# Altium schematic symbol library SparkFun-IC-Microcontroller.SCHLIB: 56 symbols (part 1 of 2)
Pins are listed as number, name and electrical type; pins without a type are passive.

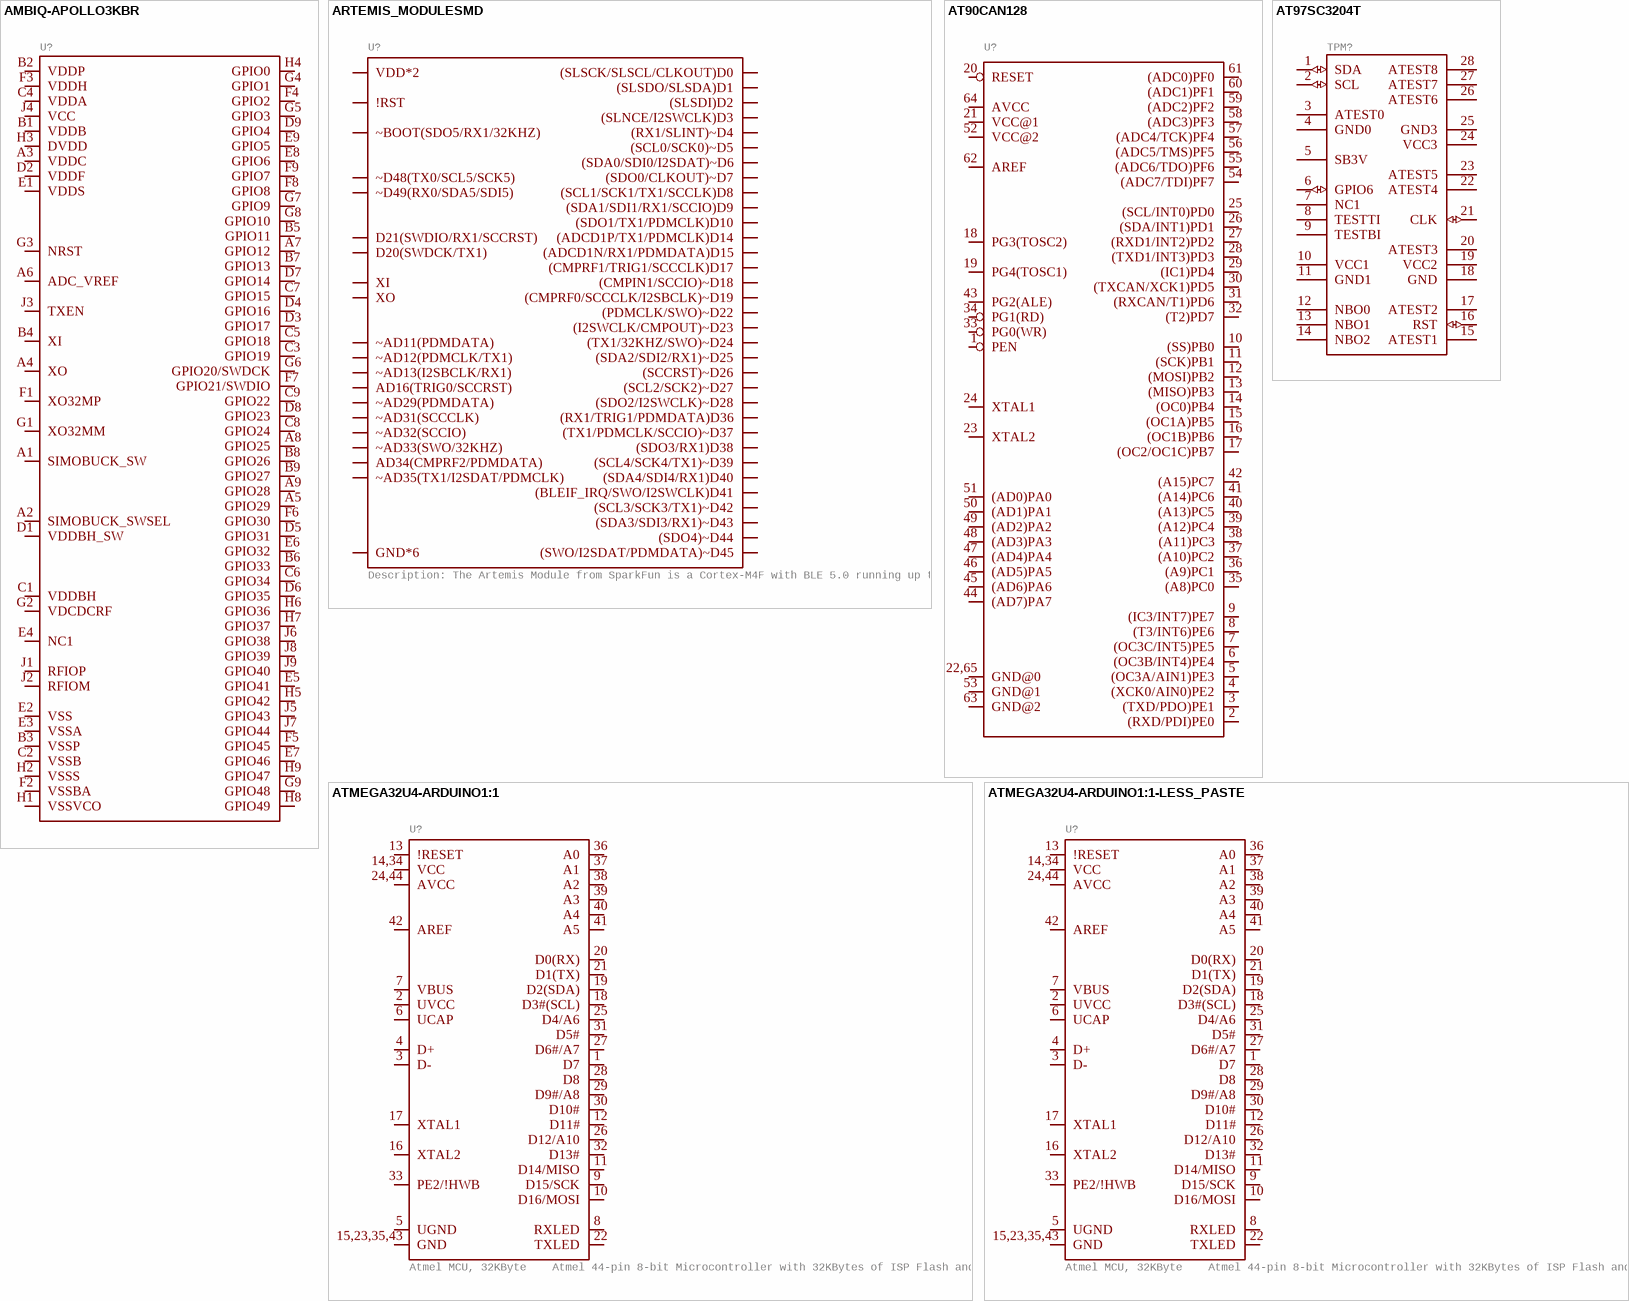
[diagram p0: symbols AMBIQ-APOLLO3KBR to ATMEGA32U4-ARDUINO1:1-LESS_PASTE]

## AMBIQ-APOLLO3KBR
designator U?
GateName_1: G$1; SymbolName_1: ABMIQ-APOLLO_3; DeviceName: KBR; DeviceSetName: AMBIQ-APOLLO3; PROD_ID: IC-14228; LibraryName: SparkFun-IC-Microcontroller; Package: BGA-81-5X5MM
footprint BGA-81-5X5MM
pins: A1 SIMOBUCK_SW (io), A2 SIMOBUCK_SWSEL (io), A3 VDDC (io), A4 XO (io), A5 GPIO29 (io), A6 ADC_VREF (io), A7 GPIO12 (io), A8 GPIO25 (io), A9 GPIO28 (io), B1 VDDB (io), B2 VDDP (io), B3 VSSP (io), B4 XI (io), B5 GPIO11 (io), B6 GPIO33 (io), B7 GPIO13 (io), B8 GPIO26 (io), B9 GPIO27 (io), C1 VDDBH (io), C2 VSSB (io), C3 GPIO19 (io), C4 VDDA (io), C5 GPIO18 (io), C6 GPIO34 (io), C7 GPIO15 (io), C8 GPIO24 (io), C9 GPIO22 (io), D1 VDDBH_SW (io), D2 VDDF (io), D3 GPIO17 (io), D4 GPIO16 (io), D5 GPIO31 (io), D6 GPIO35 (io), D7 GPIO14 (io), D8 GPIO23 (io), D9 GPIO4 (io), E1 VDDS (io), E2 VSS (io), E3 VSSA (io), E4 NC1 (io), E5 GPIO41 (io), E6 GPIO32 (io), E7 GPIO46 (io), E8 GPIO6 (io), E9 GPIO5 (io), F1 XO32MP (io), F2 VSSBA (io), F3 VDDH (io), F4 GPIO2 (io), F5 GPIO45 (io), F6 GPIO30 (io), F7 GPIO21/SWDIO (io), F8 GPIO8 (io), F9 GPIO7 (io), G1 XO32MM (io), G2 VDCDCRF (io), G3 NRST (io), G4 GPIO1 (io), G5 GPIO3 (io), G6 GPIO20/SWDCK (io), G7 GPIO9 (io), G8 GPIO10 (io), G9 GPIO48 (io), H1 VSSVCO (io), H2 VSSS (io), H3 DVDD (io), H4 GPIO0 (io), H5 GPIO42 (io), H6 GPIO36 (io), H7 GPIO37 (io), H8 GPIO49 (io), H9 GPIO47 (io), J1 RFIOP (io), J2 RFIOM (io), J3 TXEN (io), J4 VCC (io), J5 GPIO43 (io), J6 GPIO38 (io), J7 GPIO44 (io), J8 GPIO39 (io), J9 GPIO40 (io)

## ARTEMIS_MODULESMD
designator U?, comment Description: The Artemis Module from SparkFun is a Cortex-M4F with BLE 5.0 running up to 96MHz and with as low power as 6uA per MHz (less than 5mW). This is the world's first module to bridge the market between hobbyists and consumer products. We've packaged all the power of a modern microcontroller into a module that is both extremely easy to use but is mass-market ready. The flexibility of the Artemis module starts with our [Arduino core](https://github.com/sparkfun/Arduino_Apollo3). You can program and use the Artemis module just like you would an Uno or any other Arduino. Time to first blink is just 5 minutes away! We built the core from the ground up, making it fast and as light weight as possible.
GateName_1: U1; SymbolName_1: ARTEMIS_MODULE; DeviceName: SMD; PROD_ID: SUB-14402; LibraryName: SparkFun-IC-Microcontroller; DeviceSetName: ARTEMIS_MODULE; Package: ARTEMIS_FP
footprint ARTEMIS_FP
pins: AD16 AD16(TRIG0/SCCRST) (io), AD34 AD34(CMPRF2/PDMDATA) (io), BOOT ~BOOT(SDO5/RX1/32KHZ) (io), D0 (SLSCK/SLSCL/CLKOUT)D0 (io), D1 (SLSDO/SLSDA)D1 (io), D2 (SLSDI)D2 (io), D3 (SLNCE/I2SWCLK)D3 (io), D7 (SDO0/CLKOUT)~D7 (io), D8 (SCL1/SCK1/TX1/SCCLK)D8 (io), D9 (SDA1/SDI1/RX1/SCCIO)D9 (io), D10 (SDO1/TX1/PDMCLK)D10 (io), D14 (ADCD1P/TX1/PDMCLK)D14 (io), D15 (ADCD1N/RX1/PDMDATA)D15 (io), D17 (CMPRF1/TRIG1/SCCCLK)D17 (io), D36 (RX1/TRIG1/PDMDATA)D36 (io), D38 (SDO3/RX1)D38 (io), D40 (SDA4/SDI4/RX1)D40 (io), D41 (BLEIF_IRQ/SWO/I2SWCLK)D41 (io), GND@1,22,38,39,47,59 GND*6 (io), RXI-0 ~D49(RX0/SDA5/SDI5) (io), SWDCK D20(SWDCK/TX1) (io), SWDIO D21(SWDIO/RX1/SCCRST) (io), TXO-0 ~D48(TX0/SCL5/SCK5) (io), VDD@36,37 VDD*2 (io), XI (io), XO (io), ~AD11 ~AD11(PDMDATA) (io), ~AD12 ~AD12(PDMCLK/TX1) (io), ~AD13 ~AD13(I2SBCLK/RX1) (io), ~AD29 ~AD29(PDMDATA) (io), ~AD31 ~AD31(SCCCLK) (io), ~AD32 ~AD32(SCCIO) (io), ~AD33/SWO ~AD33(SWO/32KHZ) (io), ~AD35 ~AD35(TX1/I2SDAT/PDMCLK) (io), ~D4 (RX1/SLINT)~D4 (io), ~D5 (SCL0/SCK0)~D5 (io), ~D6 (SDA0/SDI0/I2SDAT)~D6 (io), ~D18 (CMPIN1/SCCIO)~D18 (io), ~D19 (CMPRF0/SCCCLK/I2SBCLK)~D19 (io), ~D22 (PDMCLK/SWO)~D22 (io), ~D23 (I2SWCLK/CMPOUT)~D23 (io), ~D24 (TX1/32KHZ/SWO)~D24 (io), ~D25 (SDA2/SDI2/RX1)~D25 (io), ~D26 (SCCRST)~D26 (io), ~D27 (SCL2/SCK2)~D27 (io), ~D28 (SDO2/I2SWCLK)~D28 (io), ~D37 (TX1/PDMCLK/SCCIO)~D37 (io), ~D39 (SCL4/SCK4/TX1)~D39 (io), ~D42 (SCL3/SCK3/TX1)~D42 (io), ~D43 (SDA3/SDI3/RX1)~D43 (io), ~D44 (SDO4)~D44 (io), ~D45 (SWO/I2SDAT/PDMDATA)~D45 (io), ~RST !RST (io)

## AT90CAN128
designator U?
GateName_1: G$1; SymbolName_1: AT90CAN128; PROD_ID: IC-13822; LibraryName: SparkFun-IC-Microcontroller; DeviceSetName: AT90CAN128; Package: QFN-64
footprint QFN-64
pins: 1 PEN (io), 2 (RXD/PDI)PE0 (io), 3 (TXD/PDO)PE1 (io), 4 (XCK0/AIN0)PE2 (io), 5 (OC3A/AIN1)PE3 (io), 6 (OC3B/INT4)PE4 (io), 7 (OC3C/INT5)PE5 (io), 8 (T3/INT6)PE6 (io), 9 (IC3/INT7)PE7 (io), 10 (SS)PB0 (io), 11 (SCK)PB1 (io), 12 (MOSI)PB2 (io), 13 (MISO)PB3 (io), 14 (OC0)PB4 (io), 15 (OC1A)PB5 (io), 16 (OC1B)PB6 (io), 17 (OC2/OC1C)PB7 (io), 18 PG3(TOSC2) (io), 19 PG4(TOSC1) (io), 20 RESET (io), 21 VCC@1 (io), 22,65 GND@0 (io), 23 XTAL2 (io), 24 XTAL1 (io), 25 (SCL/INT0)PD0 (io), 26 (SDA/INT1)PD1 (io), 27 (RXD1/INT2)PD2 (io), 28 (TXD1/INT3)PD3 (io), 29 (IC1)PD4 (io), 30 (TXCAN/XCK1)PD5 (io), 31 (RXCAN/T1)PD6 (io), 32 (T2)PD7 (io), 33 PG0(WR) (io), 34 PG1(RD) (io), 35 (A8)PC0 (io), 36 (A9)PC1 (io), 37 (A10)PC2 (io), 38 (A11)PC3 (io), 39 (A12)PC4 (io), 40 (A13)PC5 (io), 41 (A14)PC6 (io), 42 (A15)PC7 (io), 43 PG2(ALE) (io), 44 (AD7)PA7 (io), 45 (AD6)PA6 (io), 46 (AD5)PA5 (io), 47 (AD4)PA4 (io), 48 (AD3)PA3 (io), 49 (AD2)PA2 (io), 50 (AD1)PA1 (io), 51 (AD0)PA0 (io), 52 VCC@2 (io), 53 GND@1 (io), 54 (ADC7/TDI)PF7 (io), 55 (ADC6/TDO)PF6 (io), 56 (ADC5/TMS)PF5 (io), 57 (ADC4/TCK)PF4 (io), 58 (ADC3)PF3 (io), 59 (ADC2)PF2 (io), 60 (ADC1)PF1 (io), 61 (ADC0)PF0 (io), 62 AREF (io), 63 GND@2 (io), 64 AVCC (io)

## AT97SC3204T
designator TPM?, comment Atmel Trusted Platform Module 1.2    Datasheet SparkFun Products  CryptoCape (DEV-12773)  SparkFun CryptoShield (DEV-13183)  (value not drawn)
GateName_1: G$1; SymbolName_1: AT97SC3204T; PROD_ID: IC-11984; LibraryName: SparkFun-IC-Microcontroller; DeviceSetName: AT97SC3204T; Package: TSSOP28
footprint TSSOP28
pins: 1 SDA (io), 2 SCL (io), 3 ATEST0 (power), 4 GND0 (power), 5 SB3V (power), 6 GPIO6 (io), 7 NC1, 8 TESTTI (power), 9 TESTBI (power), 10 VCC1 (power), 11 GND1 (power), 12 NBO0, 13 NBO1, 14 NBO2, 15 ATEST1 (power), 16 RST (io), 17 ATEST2 (power), 18 GND (power), 19 VCC2 (power), 20 ATEST3 (power), 21 CLK (io), 22 ATEST4 (power), 23 ATEST5 (power), 24 VCC3 (power), 25 GND3 (power), 26 ATEST6 (power), 27 ATEST7 (power), 28 ATEST8 (power)

## ATMEGA32U4-ARDUINO1:1
designator U?, comment Atmel MCU, 32KByte    Atmel 44-pin 8-bit Microcontroller with 32KBytes of ISP Flash and USB Controller   Datasheet SparkFun Products  LilyPad Arduino USB - ATmega32U4 Board (DEV-12049)  Pro Micro - 5V/16MHz (DEV-12640)  Pro Micro - 3.3V/8MHz (DEV-12587)  Fio v3 - ATmega32U4 (DEV-11520)  Qduino Mini (DEV-13614)  Makey Makey - Standard Kit (WIG-11511)  Makey Makey Deluxe Kit (WIG-11519)
GateName_1: U1; SymbolName_1: ATMEGA32U4-ARDUINO; DeviceName: 1:1; PROD_ID: IC-10828; LibraryName: SparkFun-IC-Microcontroller; DeviceSetName: ATMEGA32U4-ARDUINO; Package: QFN-44-NOPAD_1:1
footprint QFN-44-NOPAD_1:1
pins: 1 D7 (io), 2 UVCC (io), 3 D- (io), 4 D+ (io), 5 UGND (io), 6 UCAP (io), 7 VBUS (io), 8 RXLED (io), 9 D15/SCK (io), 10 D16/MOSI (io), 11 D14/MISO (io), 12 D11# (io), 13 !RESET (io), 14,34 VCC (io), 15,23,35,43 GND (io), 16 XTAL2 (io), 17 XTAL1 (io), 18 D3#(SCL) (io), 19 D2(SDA) (io), 20 D0(RX) (io), 21 D1(TX) (io), 22 TXLED (io), 24,44 AVCC (io), 25 D4/A6 (io), 26 D12/A10 (io), 27 D6#/A7 (io), 28 D8 (io), 29 D9#/A8 (io), 30 D10# (io), 31 D5# (io), 32 D13# (io), 33 PE2/!HWB (io), 36 A0 (io), 37 A1 (io), 38 A2 (io), 39 A3 (io), 40 A4 (io), 41 A5 (io), 42 AREF (io)

## ATMEGA32U4-ARDUINO1:1-LESS_PASTE
designator U?, comment Atmel MCU, 32KByte    Atmel 44-pin 8-bit Microcontroller with 32KBytes of ISP Flash and USB Controller   Datasheet SparkFun Products  LilyPad Arduino USB - ATmega32U4 Board (DEV-12049)  Pro Micro - 5V/16MHz (DEV-12640)  Pro Micro - 3.3V/8MHz (DEV-12587)  Fio v3 - ATmega32U4 (DEV-11520)  Qduino Mini (DEV-13614)  Makey Makey - Standard Kit (WIG-11511)  Makey Makey Deluxe Kit (WIG-11519)
GateName_1: U1; SymbolName_1: ATMEGA32U4-ARDUINO; DeviceName: 1:1-LESS_PASTE; PROD_ID: IC-10828; LibraryName: SparkFun-IC-Microcontroller; DeviceSetName: ATMEGA32U4-ARDUINO; Package: QFN-44-NOPAD_1:1-LESS_PASTE
footprint QFN-44-NOPAD_1:1-LESS_PASTE
pins: 1 D7 (io), 2 UVCC (io), 3 D- (io), 4 D+ (io), 5 UGND (io), 6 UCAP (io), 7 VBUS (io), 8 RXLED (io), 9 D15/SCK (io), 10 D16/MOSI (io), 11 D14/MISO (io), 12 D11# (io), 13 !RESET (io), 14,34 VCC (io), 15,23,35,43 GND (io), 16 XTAL2 (io), 17 XTAL1 (io), 18 D3#(SCL) (io), 19 D2(SDA) (io), 20 D0(RX) (io), 21 D1(TX) (io), 22 TXLED (io), 24,44 AVCC (io), 25 D4/A6 (io), 26 D12/A10 (io), 27 D6#/A7 (io), 28 D8 (io), 29 D9#/A8 (io), 30 D10# (io), 31 D5# (io), 32 D13# (io), 33 PE2/!HWB (io), 36 A0 (io), 37 A1 (io), 38 A2 (io), 39 A3 (io), 40 A4 (io), 41 A5 (io), 42 AREF (io)

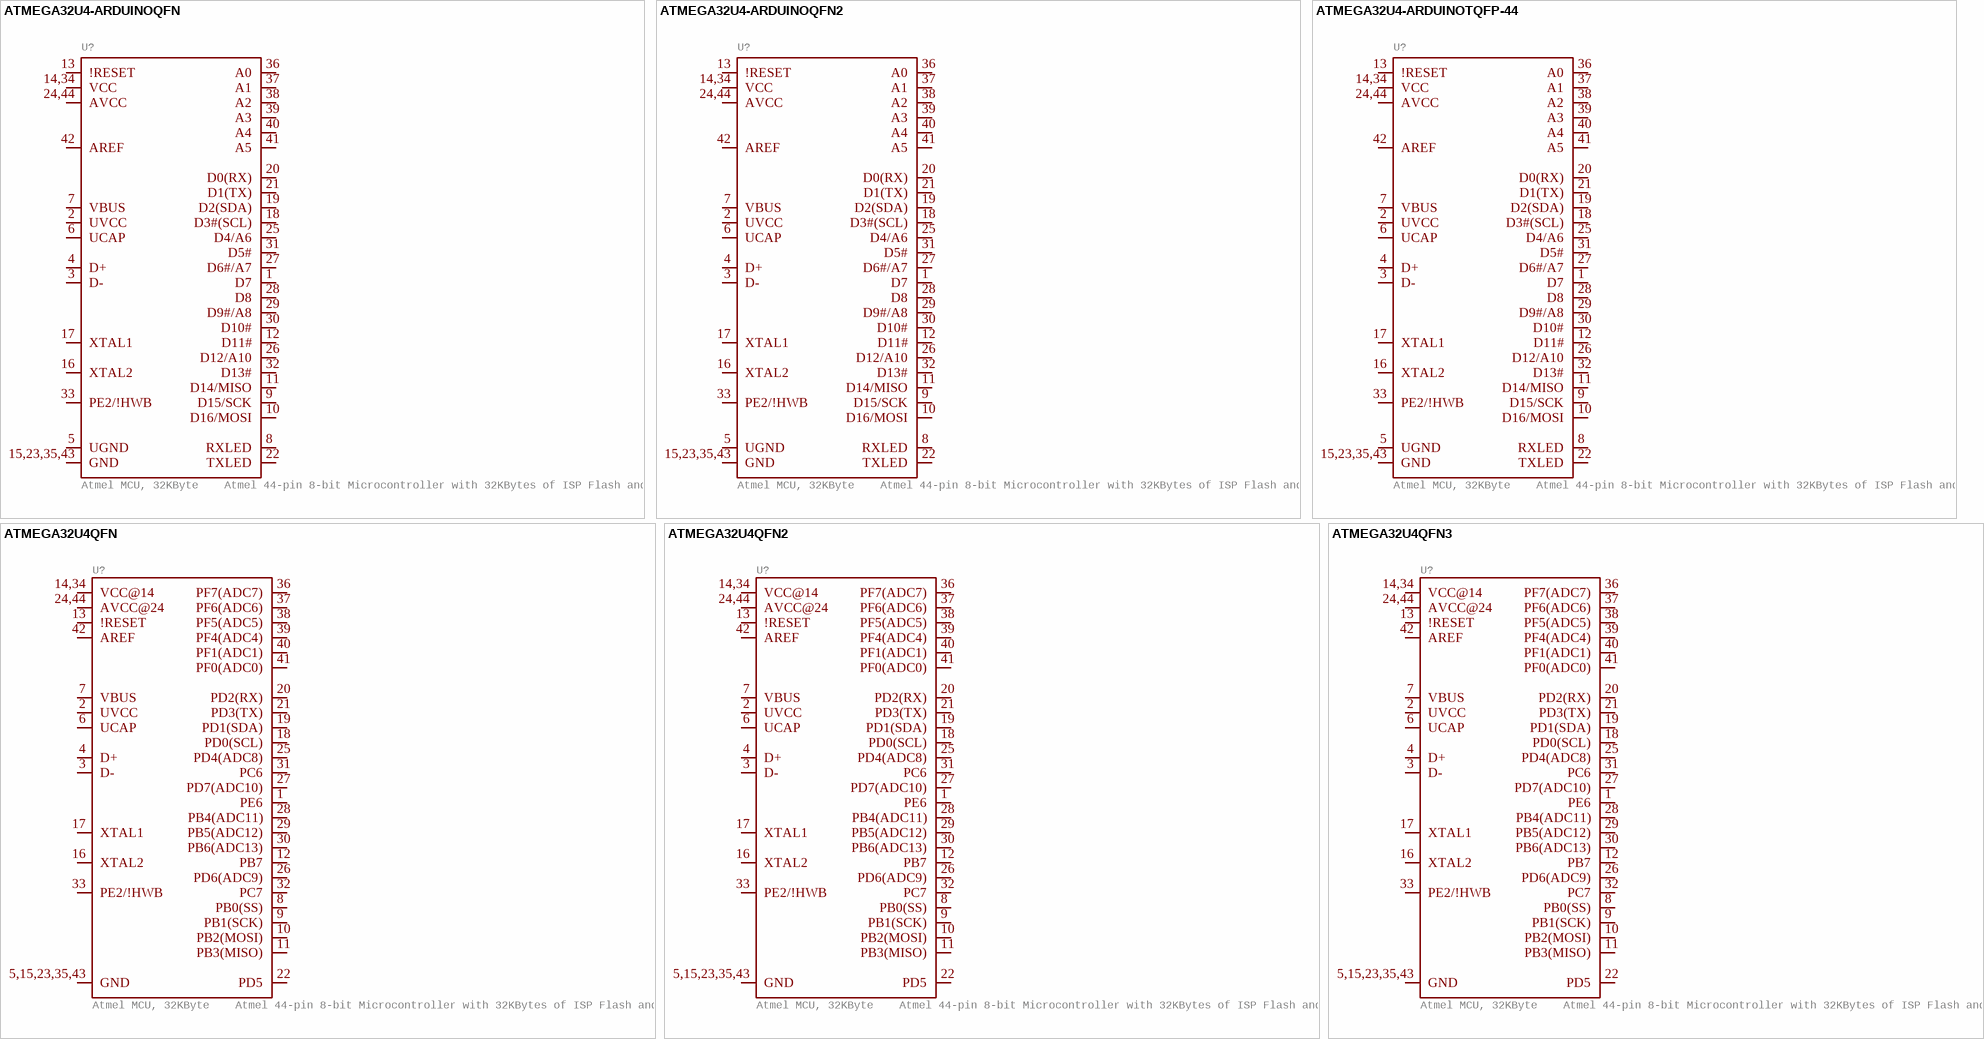
[diagram p1: symbols ATMEGA32U4-ARDUINOQFN to ATMEGA32U4QFN3]

## ATMEGA32U4-ARDUINOQFN
designator U?, comment Atmel MCU, 32KByte    Atmel 44-pin 8-bit Microcontroller with 32KBytes of ISP Flash and USB Controller   Datasheet SparkFun Products  LilyPad Arduino USB - ATmega32U4 Board (DEV-12049)  Pro Micro - 5V/16MHz (DEV-12640)  Pro Micro - 3.3V/8MHz (DEV-12587)  Fio v3 - ATmega32U4 (DEV-11520)  Qduino Mini (DEV-13614)  Makey Makey - Standard Kit (WIG-11511)  Makey Makey Deluxe Kit (WIG-11519)
GateName_1: U1; SymbolName_1: ATMEGA32U4-ARDUINO; DeviceName: QFN; PROD_ID: IC-10828; LibraryName: SparkFun-IC-Microcontroller; DeviceSetName: ATMEGA32U4-ARDUINO; Package: QFN-44
footprint QFN-44
pins: 1 D7 (io), 2 UVCC (io), 3 D- (io), 4 D+ (io), 5 UGND (io), 6 UCAP (io), 7 VBUS (io), 8 RXLED (io), 9 D15/SCK (io), 10 D16/MOSI (io), 11 D14/MISO (io), 12 D11# (io), 13 !RESET (io), 14,34 VCC (io), 15,23,35,43 GND (io), 16 XTAL2 (io), 17 XTAL1 (io), 18 D3#(SCL) (io), 19 D2(SDA) (io), 20 D0(RX) (io), 21 D1(TX) (io), 22 TXLED (io), 24,44 AVCC (io), 25 D4/A6 (io), 26 D12/A10 (io), 27 D6#/A7 (io), 28 D8 (io), 29 D9#/A8 (io), 30 D10# (io), 31 D5# (io), 32 D13# (io), 33 PE2/!HWB (io), 36 A0 (io), 37 A1 (io), 38 A2 (io), 39 A3 (io), 40 A4 (io), 41 A5 (io), 42 AREF (io)

## ATMEGA32U4-ARDUINOQFN2
designator U?, comment Atmel MCU, 32KByte    Atmel 44-pin 8-bit Microcontroller with 32KBytes of ISP Flash and USB Controller   Datasheet SparkFun Products  LilyPad Arduino USB - ATmega32U4 Board (DEV-12049)  Pro Micro - 5V/16MHz (DEV-12640)  Pro Micro - 3.3V/8MHz (DEV-12587)  Fio v3 - ATmega32U4 (DEV-11520)  Qduino Mini (DEV-13614)  Makey Makey - Standard Kit (WIG-11511)  Makey Makey Deluxe Kit (WIG-11519)
GateName_1: U1; SymbolName_1: ATMEGA32U4-ARDUINO; DeviceName: QFN2; PROD_ID: IC-10828; LibraryName: SparkFun-IC-Microcontroller; DeviceSetName: ATMEGA32U4-ARDUINO; Package: QFN-44-NOPAD
footprint QFN-44-NOPAD
pins: 1 D7 (io), 2 UVCC (io), 3 D- (io), 4 D+ (io), 5 UGND (io), 6 UCAP (io), 7 VBUS (io), 8 RXLED (io), 9 D15/SCK (io), 10 D16/MOSI (io), 11 D14/MISO (io), 12 D11# (io), 13 !RESET (io), 14,34 VCC (io), 15,23,35,43 GND (io), 16 XTAL2 (io), 17 XTAL1 (io), 18 D3#(SCL) (io), 19 D2(SDA) (io), 20 D0(RX) (io), 21 D1(TX) (io), 22 TXLED (io), 24,44 AVCC (io), 25 D4/A6 (io), 26 D12/A10 (io), 27 D6#/A7 (io), 28 D8 (io), 29 D9#/A8 (io), 30 D10# (io), 31 D5# (io), 32 D13# (io), 33 PE2/!HWB (io), 36 A0 (io), 37 A1 (io), 38 A2 (io), 39 A3 (io), 40 A4 (io), 41 A5 (io), 42 AREF (io)

## ATMEGA32U4-ARDUINOTQFP-44
designator U?, comment Atmel MCU, 32KByte    Atmel 44-pin 8-bit Microcontroller with 32KBytes of ISP Flash and USB Controller   Datasheet SparkFun Products  LilyPad Arduino USB - ATmega32U4 Board (DEV-12049)  Pro Micro - 5V/16MHz (DEV-12640)  Pro Micro - 3.3V/8MHz (DEV-12587)  Fio v3 - ATmega32U4 (DEV-11520)  Qduino Mini (DEV-13614)  Makey Makey - Standard Kit (WIG-11511)  Makey Makey Deluxe Kit (WIG-11519)
GateName_1: U1; SymbolName_1: ATMEGA32U4-ARDUINO; DeviceName: TQFP-44; PROD_ID: IC-11161; LibraryName: SparkFun-IC-Microcontroller; DeviceSetName: ATMEGA32U4-ARDUINO; Package: TQFP44
footprint TQFP44
pins: 1 D7 (io), 2 UVCC (io), 3 D- (io), 4 D+ (io), 5 UGND (io), 6 UCAP (io), 7 VBUS (io), 8 RXLED (io), 9 D15/SCK (io), 10 D16/MOSI (io), 11 D14/MISO (io), 12 D11# (io), 13 !RESET (io), 14,34 VCC (io), 15,23,35,43 GND (io), 16 XTAL2 (io), 17 XTAL1 (io), 18 D3#(SCL) (io), 19 D2(SDA) (io), 20 D0(RX) (io), 21 D1(TX) (io), 22 TXLED (io), 24,44 AVCC (io), 25 D4/A6 (io), 26 D12/A10 (io), 27 D6#/A7 (io), 28 D8 (io), 29 D9#/A8 (io), 30 D10# (io), 31 D5# (io), 32 D13# (io), 33 PE2/!HWB (io), 36 A0 (io), 37 A1 (io), 38 A2 (io), 39 A3 (io), 40 A4 (io), 41 A5 (io), 42 AREF (io)

## ATMEGA32U4QFN
designator U?, comment Atmel MCU, 32KByte    Atmel 44-pin 8-bit Microcontroller with 32KBytes of ISP Flash and USB Controller   Datasheet SparkFun Products  LilyPad Arduino USB - ATmega32U4 Board (DEV-12049)  Pro Micro - 5V/16MHz (DEV-12640)  Pro Micro - 3.3V/8MHz (DEV-12587)  Fio v3 - ATmega32U4 (DEV-11520)  Qduino Mini (DEV-13614)  Makey Makey - Standard Kit (WIG-11511)  Makey Makey Deluxe Kit (WIG-11519)
GateName_1: U1; DeviceName: QFN; PROD_ID: IC-10828; SymbolName_1: ATMEGA32U4; LibraryName: SparkFun-IC-Microcontroller; DeviceSetName: ATMEGA32U4; Package: QFN-44
footprint QFN-44
pins: 1 PE6 (io), 2 UVCC (io), 3 D- (io), 4 D+ (io), 5,15,23,35,43 GND (io), 6 UCAP (io), 7 VBUS (io), 8 PB0(SS) (io), 9 PB1(SCK) (io), 10 PB2(MOSI) (io), 11 PB3(MISO) (io), 12 PB7 (io), 13 !RESET (io), 14,34 VCC@14 (io), 16 XTAL2 (io), 17 XTAL1 (io), 18 PD0(SCL) (io), 19 PD1(SDA) (io), 20 PD2(RX) (io), 21 PD3(TX) (io), 22 PD5 (io), 24,44 AVCC@24 (io), 25 PD4(ADC8) (io), 26 PD6(ADC9) (io), 27 PD7(ADC10) (io), 28 PB4(ADC11) (io), 29 PB5(ADC12) (io), 30 PB6(ADC13) (io), 31 PC6 (io), 32 PC7 (io), 33 PE2/!HWB (io), 36 PF7(ADC7) (io), 37 PF6(ADC6) (io), 38 PF5(ADC5) (io), 39 PF4(ADC4) (io), 40 PF1(ADC1) (io), 41 PF0(ADC0) (io), 42 AREF (io)

## ATMEGA32U4QFN2
designator U?, comment Atmel MCU, 32KByte    Atmel 44-pin 8-bit Microcontroller with 32KBytes of ISP Flash and USB Controller   Datasheet SparkFun Products  LilyPad Arduino USB - ATmega32U4 Board (DEV-12049)  Pro Micro - 5V/16MHz (DEV-12640)  Pro Micro - 3.3V/8MHz (DEV-12587)  Fio v3 - ATmega32U4 (DEV-11520)  Qduino Mini (DEV-13614)  Makey Makey - Standard Kit (WIG-11511)  Makey Makey Deluxe Kit (WIG-11519)
GateName_1: U1; DeviceName: QFN2; PROD_ID: IC-10828; SymbolName_1: ATMEGA32U4; LibraryName: SparkFun-IC-Microcontroller; DeviceSetName: ATMEGA32U4; Package: QFN-44-NOPAD
footprint QFN-44-NOPAD
pins: 1 PE6 (io), 2 UVCC (io), 3 D- (io), 4 D+ (io), 5,15,23,35,43 GND (io), 6 UCAP (io), 7 VBUS (io), 8 PB0(SS) (io), 9 PB1(SCK) (io), 10 PB2(MOSI) (io), 11 PB3(MISO) (io), 12 PB7 (io), 13 !RESET (io), 14,34 VCC@14 (io), 16 XTAL2 (io), 17 XTAL1 (io), 18 PD0(SCL) (io), 19 PD1(SDA) (io), 20 PD2(RX) (io), 21 PD3(TX) (io), 22 PD5 (io), 24,44 AVCC@24 (io), 25 PD4(ADC8) (io), 26 PD6(ADC9) (io), 27 PD7(ADC10) (io), 28 PB4(ADC11) (io), 29 PB5(ADC12) (io), 30 PB6(ADC13) (io), 31 PC6 (io), 32 PC7 (io), 33 PE2/!HWB (io), 36 PF7(ADC7) (io), 37 PF6(ADC6) (io), 38 PF5(ADC5) (io), 39 PF4(ADC4) (io), 40 PF1(ADC1) (io), 41 PF0(ADC0) (io), 42 AREF (io)

## ATMEGA32U4QFN3
designator U?, comment Atmel MCU, 32KByte    Atmel 44-pin 8-bit Microcontroller with 32KBytes of ISP Flash and USB Controller   Datasheet SparkFun Products  LilyPad Arduino USB - ATmega32U4 Board (DEV-12049)  Pro Micro - 5V/16MHz (DEV-12640)  Pro Micro - 3.3V/8MHz (DEV-12587)  Fio v3 - ATmega32U4 (DEV-11520)  Qduino Mini (DEV-13614)  Makey Makey - Standard Kit (WIG-11511)  Makey Makey Deluxe Kit (WIG-11519)
GateName_1: U1; DeviceName: QFN3; PROD_ID: IC-10828; SymbolName_1: ATMEGA32U4; LibraryName: SparkFun-IC-Microcontroller; DeviceSetName: ATMEGA32U4; Package: QFN-44-PAD_1:1-LESS_PASTE
footprint QFN-44-PAD_1:1-LESS_PASTE
pins: 1 PE6 (io), 2 UVCC (io), 3 D- (io), 4 D+ (io), 5,15,23,35,43 GND (io), 6 UCAP (io), 7 VBUS (io), 8 PB0(SS) (io), 9 PB1(SCK) (io), 10 PB2(MOSI) (io), 11 PB3(MISO) (io), 12 PB7 (io), 13 !RESET (io), 14,34 VCC@14 (io), 16 XTAL2 (io), 17 XTAL1 (io), 18 PD0(SCL) (io), 19 PD1(SDA) (io), 20 PD2(RX) (io), 21 PD3(TX) (io), 22 PD5 (io), 24,44 AVCC@24 (io), 25 PD4(ADC8) (io), 26 PD6(ADC9) (io), 27 PD7(ADC10) (io), 28 PB4(ADC11) (io), 29 PB5(ADC12) (io), 30 PB6(ADC13) (io), 31 PC6 (io), 32 PC7 (io), 33 PE2/!HWB (io), 36 PF7(ADC7) (io), 37 PF6(ADC6) (io), 38 PF5(ADC5) (io), 39 PF4(ADC4) (io), 40 PF1(ADC1) (io), 41 PF0(ADC0) (io), 42 AREF (io)

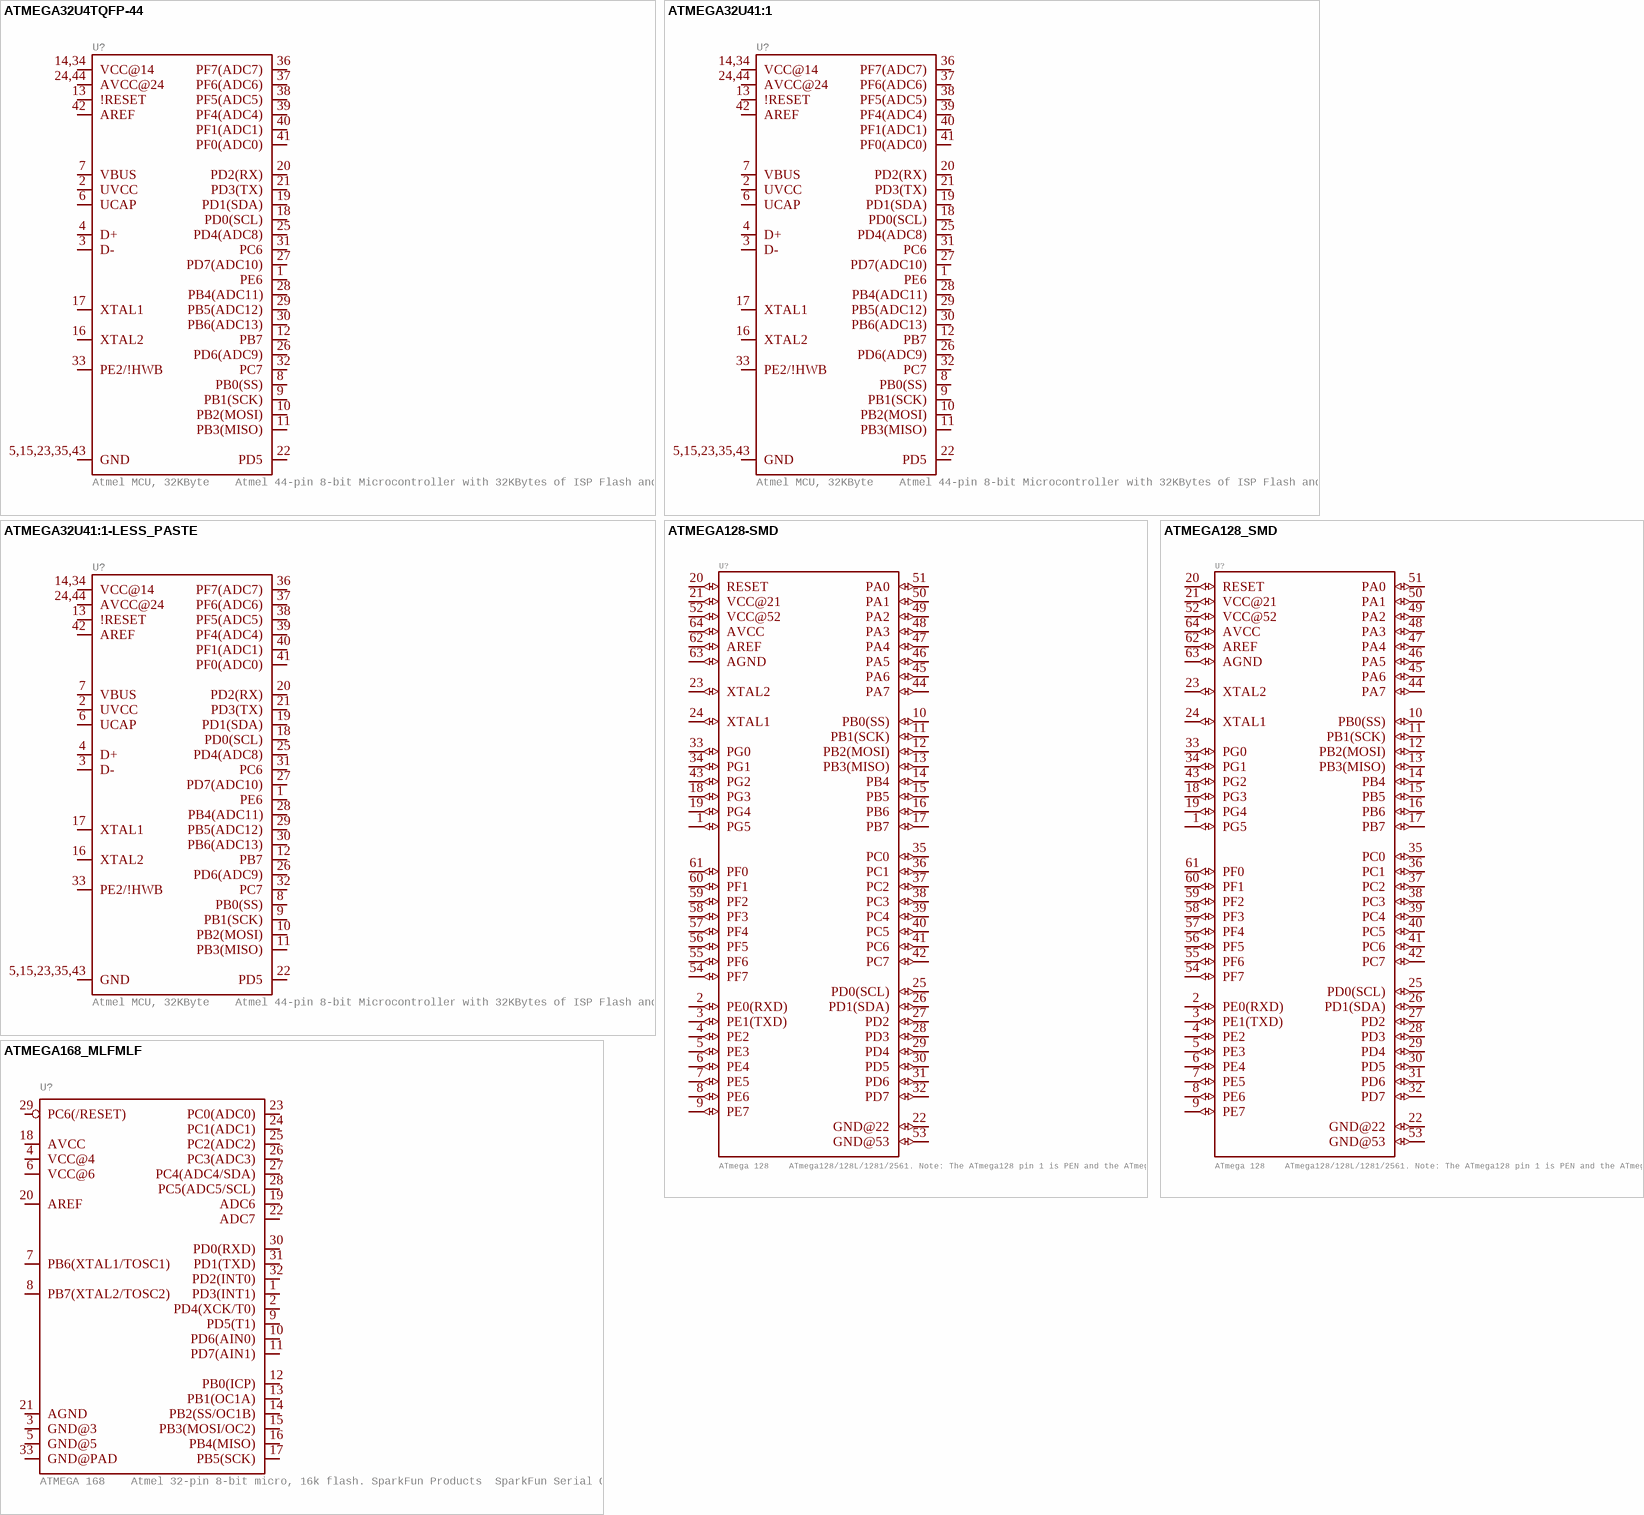
[diagram p2: symbols ATMEGA32U4TQFP-44 to ATMEGA168_MLFMLF]

## ATMEGA32U4TQFP-44
designator U?, comment Atmel MCU, 32KByte    Atmel 44-pin 8-bit Microcontroller with 32KBytes of ISP Flash and USB Controller   Datasheet SparkFun Products  LilyPad Arduino USB - ATmega32U4 Board (DEV-12049)  Pro Micro - 5V/16MHz (DEV-12640)  Pro Micro - 3.3V/8MHz (DEV-12587)  Fio v3 - ATmega32U4 (DEV-11520)  Qduino Mini (DEV-13614)  Makey Makey - Standard Kit (WIG-11511)  Makey Makey Deluxe Kit (WIG-11519)
GateName_1: U1; DeviceName: TQFP-44; PROD_ID: IC-11161; SymbolName_1: ATMEGA32U4; LibraryName: SparkFun-IC-Microcontroller; DeviceSetName: ATMEGA32U4; Package: TQFP44
footprint TQFP44
pins: 1 PE6 (io), 2 UVCC (io), 3 D- (io), 4 D+ (io), 5,15,23,35,43 GND (io), 6 UCAP (io), 7 VBUS (io), 8 PB0(SS) (io), 9 PB1(SCK) (io), 10 PB2(MOSI) (io), 11 PB3(MISO) (io), 12 PB7 (io), 13 !RESET (io), 14,34 VCC@14 (io), 16 XTAL2 (io), 17 XTAL1 (io), 18 PD0(SCL) (io), 19 PD1(SDA) (io), 20 PD2(RX) (io), 21 PD3(TX) (io), 22 PD5 (io), 24,44 AVCC@24 (io), 25 PD4(ADC8) (io), 26 PD6(ADC9) (io), 27 PD7(ADC10) (io), 28 PB4(ADC11) (io), 29 PB5(ADC12) (io), 30 PB6(ADC13) (io), 31 PC6 (io), 32 PC7 (io), 33 PE2/!HWB (io), 36 PF7(ADC7) (io), 37 PF6(ADC6) (io), 38 PF5(ADC5) (io), 39 PF4(ADC4) (io), 40 PF1(ADC1) (io), 41 PF0(ADC0) (io), 42 AREF (io)

## ATMEGA32U41:1
designator U?, comment Atmel MCU, 32KByte    Atmel 44-pin 8-bit Microcontroller with 32KBytes of ISP Flash and USB Controller   Datasheet SparkFun Products  LilyPad Arduino USB - ATmega32U4 Board (DEV-12049)  Pro Micro - 5V/16MHz (DEV-12640)  Pro Micro - 3.3V/8MHz (DEV-12587)  Fio v3 - ATmega32U4 (DEV-11520)  Qduino Mini (DEV-13614)  Makey Makey - Standard Kit (WIG-11511)  Makey Makey Deluxe Kit (WIG-11519)
GateName_1: U1; DeviceName: 1:1; PROD_ID: IC-10828; SymbolName_1: ATMEGA32U4; LibraryName: SparkFun-IC-Microcontroller; DeviceSetName: ATMEGA32U4; Package: QFN-44-NOPAD_1:1
footprint QFN-44-NOPAD_1:1
pins: 1 PE6 (io), 2 UVCC (io), 3 D- (io), 4 D+ (io), 5,15,23,35,43 GND (io), 6 UCAP (io), 7 VBUS (io), 8 PB0(SS) (io), 9 PB1(SCK) (io), 10 PB2(MOSI) (io), 11 PB3(MISO) (io), 12 PB7 (io), 13 !RESET (io), 14,34 VCC@14 (io), 16 XTAL2 (io), 17 XTAL1 (io), 18 PD0(SCL) (io), 19 PD1(SDA) (io), 20 PD2(RX) (io), 21 PD3(TX) (io), 22 PD5 (io), 24,44 AVCC@24 (io), 25 PD4(ADC8) (io), 26 PD6(ADC9) (io), 27 PD7(ADC10) (io), 28 PB4(ADC11) (io), 29 PB5(ADC12) (io), 30 PB6(ADC13) (io), 31 PC6 (io), 32 PC7 (io), 33 PE2/!HWB (io), 36 PF7(ADC7) (io), 37 PF6(ADC6) (io), 38 PF5(ADC5) (io), 39 PF4(ADC4) (io), 40 PF1(ADC1) (io), 41 PF0(ADC0) (io), 42 AREF (io)

## ATMEGA32U41:1-LESS_PASTE
designator U?, comment Atmel MCU, 32KByte    Atmel 44-pin 8-bit Microcontroller with 32KBytes of ISP Flash and USB Controller   Datasheet SparkFun Products  LilyPad Arduino USB - ATmega32U4 Board (DEV-12049)  Pro Micro - 5V/16MHz (DEV-12640)  Pro Micro - 3.3V/8MHz (DEV-12587)  Fio v3 - ATmega32U4 (DEV-11520)  Qduino Mini (DEV-13614)  Makey Makey - Standard Kit (WIG-11511)  Makey Makey Deluxe Kit (WIG-11519)
GateName_1: U1; DeviceName: 1:1-LESS_PASTE; PROD_ID: IC-10828; SymbolName_1: ATMEGA32U4; LibraryName: SparkFun-IC-Microcontroller; DeviceSetName: ATMEGA32U4; Package: QFN-44-NOPAD_1:1-LESS_PASTE
footprint QFN-44-NOPAD_1:1-LESS_PASTE
pins: 1 PE6 (io), 2 UVCC (io), 3 D- (io), 4 D+ (io), 5,15,23,35,43 GND (io), 6 UCAP (io), 7 VBUS (io), 8 PB0(SS) (io), 9 PB1(SCK) (io), 10 PB2(MOSI) (io), 11 PB3(MISO) (io), 12 PB7 (io), 13 !RESET (io), 14,34 VCC@14 (io), 16 XTAL2 (io), 17 XTAL1 (io), 18 PD0(SCL) (io), 19 PD1(SDA) (io), 20 PD2(RX) (io), 21 PD3(TX) (io), 22 PD5 (io), 24,44 AVCC@24 (io), 25 PD4(ADC8) (io), 26 PD6(ADC9) (io), 27 PD7(ADC10) (io), 28 PB4(ADC11) (io), 29 PB5(ADC12) (io), 30 PB6(ADC13) (io), 31 PC6 (io), 32 PC7 (io), 33 PE2/!HWB (io), 36 PF7(ADC7) (io), 37 PF6(ADC6) (io), 38 PF5(ADC5) (io), 39 PF4(ADC4) (io), 40 PF1(ADC1) (io), 41 PF0(ADC0) (io), 42 AREF (io)

## ATMEGA128-SMD
designator U?, comment ATmega 128    ATmega128/128L/1281/2561. Note: The ATmega128 pin 1 is PEN and the ATmega256/1281 pin 1 is PG5.   Not in catalog
GateName_1: G$1; DeviceName: -SMD; SymbolName_1: ATMEGA128; LibraryName: SparkFun-IC-Microcontroller; DeviceSetName: ATMEGA128; Package: TQFP64_14X14MM
footprint TQFP64_14X14MM
pins: 1 PG5 (io), 2 PE0(RXD) (io), 3 PE1(TXD) (io), 4 PE2 (io), 5 PE3 (io), 6 PE4 (io), 7 PE5 (io), 8 PE6 (io), 9 PE7 (io), 10 PB0(SS) (io), 11 PB1(SCK) (io), 12 PB2(MOSI) (io), 13 PB3(MISO) (io), 14 PB4 (io), 15 PB5 (io), 16 PB6 (io), 17 PB7 (io), 18 PG3 (io), 19 PG4 (io), 20 RESET (io), 21 VCC@21 (io), 22 GND@22 (io), 23 XTAL2 (io), 24 XTAL1 (io), 25 PD0(SCL) (io), 26 PD1(SDA) (io), 27 PD2 (io), 28 PD3 (io), 29 PD4 (io), 30 PD5 (io), 31 PD6 (io), 32 PD7 (io), 33 PG0 (io), 34 PG1 (io), 35 PC0 (io), 36 PC1 (io), 37 PC2 (io), 38 PC3 (io), 39 PC4 (io), 40 PC5 (io), 41 PC6 (io), 42 PC7 (io), 43 PG2 (io), 44 PA7 (io), 45 PA6 (io), 46 PA5 (io), 47 PA4 (io), 48 PA3 (io), 49 PA2 (io), 50 PA1 (io), 51 PA0 (io), 52 VCC@52 (io), 53 GND@53 (io), 54 PF7 (io), 55 PF6 (io), 56 PF5 (io), 57 PF4 (io), 58 PF3 (io), 59 PF2 (io), 60 PF1 (io), 61 PF0 (io), 62 AREF (io), 63 AGND (io), 64 AVCC (io)

## ATMEGA128_SMD
designator U?, comment ATmega 128    ATmega128/128L/1281/2561. Note: The ATmega128 pin 1 is PEN and the ATmega256/1281 pin 1 is PG5.   Not in catalog
GateName_1: G$1; DeviceName: _SMD; SymbolName_1: ATMEGA128; LibraryName: SparkFun-IC-Microcontroller; DeviceSetName: ATMEGA128; Package: TQFP64
footprint TQFP64
pins: 1 PG5 (io), 2 PE0(RXD) (io), 3 PE1(TXD) (io), 4 PE2 (io), 5 PE3 (io), 6 PE4 (io), 7 PE5 (io), 8 PE6 (io), 9 PE7 (io), 10 PB0(SS) (io), 11 PB1(SCK) (io), 12 PB2(MOSI) (io), 13 PB3(MISO) (io), 14 PB4 (io), 15 PB5 (io), 16 PB6 (io), 17 PB7 (io), 18 PG3 (io), 19 PG4 (io), 20 RESET (io), 21 VCC@21 (io), 22 GND@22 (io), 23 XTAL2 (io), 24 XTAL1 (io), 25 PD0(SCL) (io), 26 PD1(SDA) (io), 27 PD2 (io), 28 PD3 (io), 29 PD4 (io), 30 PD5 (io), 31 PD6 (io), 32 PD7 (io), 33 PG0 (io), 34 PG1 (io), 35 PC0 (io), 36 PC1 (io), 37 PC2 (io), 38 PC3 (io), 39 PC4 (io), 40 PC5 (io), 41 PC6 (io), 42 PC7 (io), 43 PG2 (io), 44 PA7 (io), 45 PA6 (io), 46 PA5 (io), 47 PA4 (io), 48 PA3 (io), 49 PA2 (io), 50 PA1 (io), 51 PA0 (io), 52 VCC@52 (io), 53 GND@53 (io), 54 PF7 (io), 55 PF6 (io), 56 PF5 (io), 57 PF4 (io), 58 PF3 (io), 59 PF2 (io), 60 PF1 (io), 61 PF0 (io), 62 AREF (io), 63 AGND (io), 64 AVCC (io)

## ATMEGA168_MLFMLF
designator U?, comment ATMEGA 168    Atmel 32-pin 8-bit micro, 16k flash. SparkFun Products  SparkFun Serial Graphic LCD 128x64 (LCD-09351)  SparkFun Graphic LCD Serial Backpack (LCD-09352)  SparkFun Serial Graphic LCD 160x128 (LCD-08884)
GateName_1: U1; SymbolName_1: ATMEGAXX8-32PIN; DeviceName: MLF; DeviceSetName: ATMEGA168_MLF; PROD_ID: NA-XXXXX; LibraryName: SparkFun-IC-Microcontroller; Package: MLF32
footprint MLF32
pins: 1 PD3(INT1) (io), 2 PD4(XCK/T0) (io), 3 GND@3 (io), 4 VCC@4 (io), 5 GND@5 (io), 6 VCC@6 (io), 7 PB6(XTAL1/TOSC1) (io), 8 PB7(XTAL2/TOSC2) (io), 9 PD5(T1) (io), 10 PD6(AIN0) (io), 11 PD7(AIN1) (io), 12 PB0(ICP) (io), 13 PB1(OC1A) (io), 14 PB2(SS/OC1B) (io), 15 PB3(MOSI/OC2) (io), 16 PB4(MISO) (io), 17 PB5(SCK) (io), 18 AVCC (io), 19 ADC6 (io), 20 AREF (io), 21 AGND (io), 22 ADC7 (io), 23 PC0(ADC0) (io), 24 PC1(ADC1) (io), 25 PC2(ADC2) (io), 26 PC3(ADC3) (io), 27 PC4(ADC4/SDA) (io), 28 PC5(ADC5/SCL) (io), 29 PC6(/RESET) (io), 30 PD0(RXD) (io), 31 PD1(TXD) (io), 32 PD2(INT0) (io), 33 GND@PAD (io)

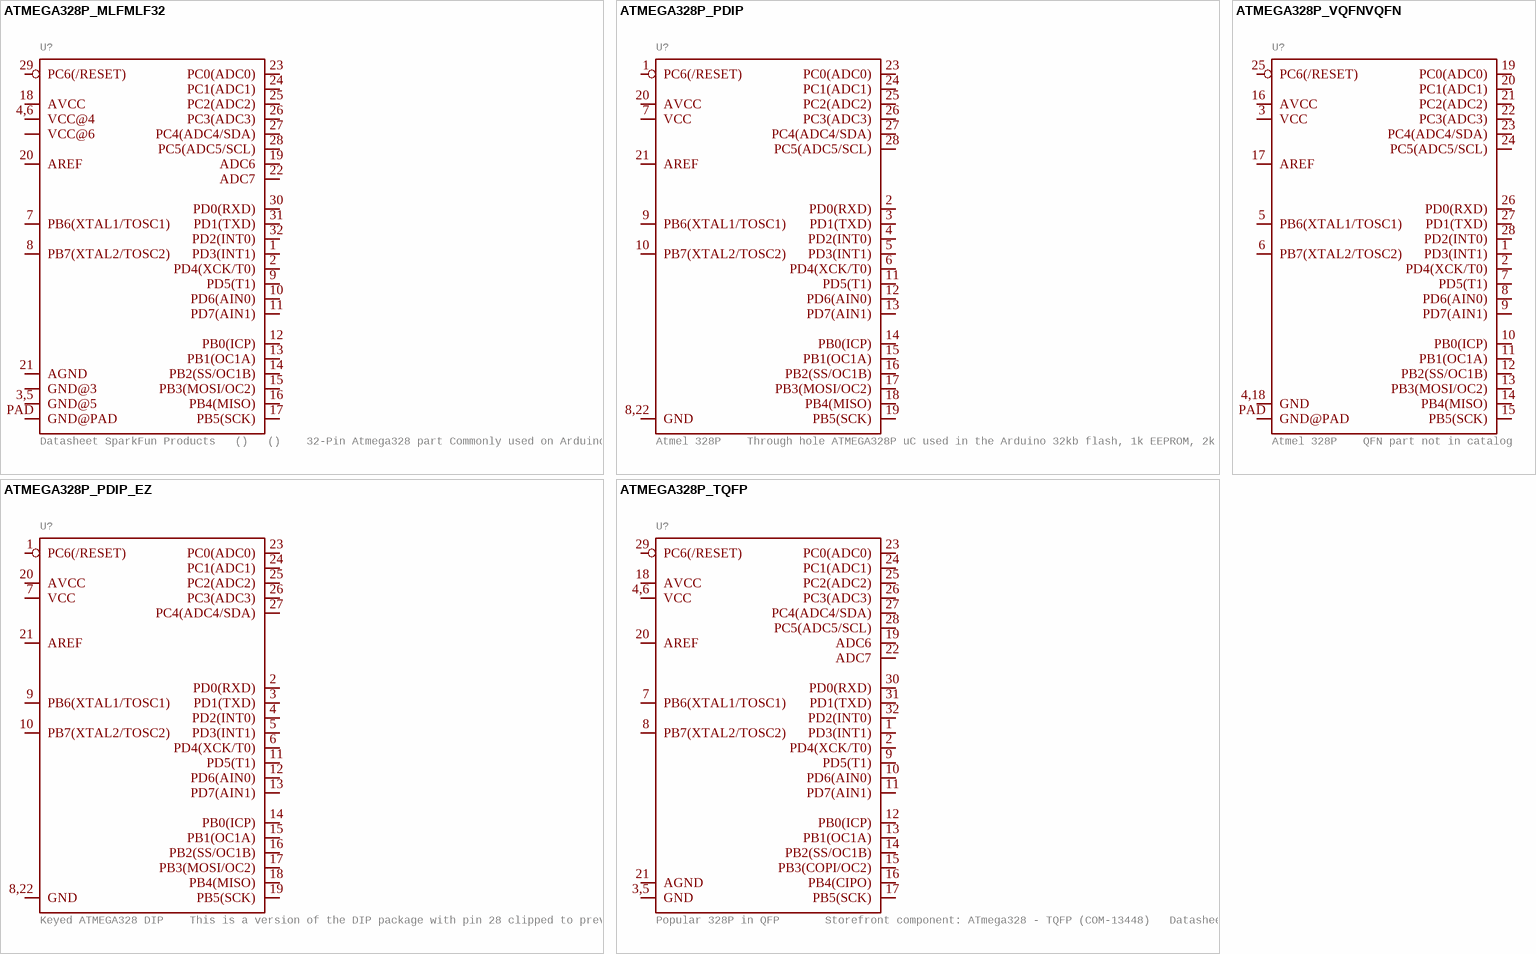
[diagram p3: symbols ATMEGA328P_MLFMLF32 to ATMEGA328P_VQFNVQFN]

## ATMEGA328P_MLFMLF32
designator U?, comment Datasheet SparkFun Products   ()   ()    32-Pin Atmega328 part Commonly used on Arduino compatible boards Available in QFP and QFN packages TQFP is IC-09069 QFN is non-stock
GateName_1: U$1; SymbolName_1: ATMEGAXX8-32PIN; DeviceName: MLF32; DeviceSetName: ATMEGA328P_MLF; LibraryName: SparkFun-IC-Microcontroller; Package: MLF32-PAD
footprint MLF32-PAD
pins: 1 PD3(INT1) (io), 2 PD4(XCK/T0) (io), 3,5 GND@5 (io), 4,6 VCC@4 (io), 7 PB6(XTAL1/TOSC1) (io), 8 PB7(XTAL2/TOSC2) (io), 9 PD5(T1) (io), 10 PD6(AIN0) (io), 11 PD7(AIN1) (io), 12 PB0(ICP) (io), 13 PB1(OC1A) (io), 14 PB2(SS/OC1B) (io), 15 PB3(MOSI/OC2) (io), 16 PB4(MISO) (io), 17 PB5(SCK) (io), 18 AVCC (io), 19 ADC6 (io), 20 AREF (io), 21 AGND (io), 22 ADC7 (io), 23 PC0(ADC0) (io), 24 PC1(ADC1) (io), 25 PC2(ADC2) (io), 26 PC3(ADC3) (io), 27 PC4(ADC4/SDA) (io), 28 PC5(ADC5/SCL) (io), 29 PC6(/RESET) (io), 30 PD0(RXD) (io), 31 PD1(TXD) (io), 32 PD2(INT0) (io), ?1 GND@3 (io), ?2 VCC@6 (io), PAD GND@PAD (io)

## ATMEGA328P_PDIP
designator U?, comment Atmel 328P    Through hole ATMEGA328P uC used in the Arduino 32kb flash, 1k EEPROM, 2k SRAM   Datasheet SparkFun Products  Storefront component: AVR 28 Pin 20MHz 32K 6A/D - ATMega328P (COM-09061)  SparkFun Simon Says - Through-Hole Soldering Kit (KIT-10547)  SparkFun Learn to Solder - Simon Says (KIT-13708)  SparkFun BigTime Watch Kit (KIT-11734)  SparkFun ClockIt (KIT-10930)  SparkFun Serial Enabled LCD Kit (LCD-10097)  SparkFun Simon Tilts - Through Hole Soldering Kit (KIT-12634)  SparkFun Frequency Counter Kit (KIT-10140)  FabFM Radio Kit (KIT-11043)  SparkFun Binary Blaster Kit (KIT-12037)  SparkFun Metro-Gnome (KIT-09236)  ATmega328 with Arduino Optiboot (Uno) (DEV-10524)
GateName_1: U1; SymbolName_1: ATMEGAXX8-28PIN; DeviceSetName: ATMEGA328P_PDIP; PROD_ID: IC-09136; LibraryName: SparkFun-IC-Microcontroller; Package: DIP28
footprint DIP28
pins: 1 PC6(/RESET) (io), 2 PD0(RXD) (io), 3 PD1(TXD) (io), 4 PD2(INT0) (io), 5 PD3(INT1) (io), 6 PD4(XCK/T0) (io), 7 VCC (io), 8,22 GND (io), 9 PB6(XTAL1/TOSC1) (io), 10 PB7(XTAL2/TOSC2) (io), 11 PD5(T1) (io), 12 PD6(AIN0) (io), 13 PD7(AIN1) (io), 14 PB0(ICP) (io), 15 PB1(OC1A) (io), 16 PB2(SS/OC1B) (io), 17 PB3(MOSI/OC2) (io), 18 PB4(MISO) (io), 19 PB5(SCK) (io), 20 AVCC (io), 21 AREF (io), 23 PC0(ADC0) (io), 24 PC1(ADC1) (io), 25 PC2(ADC2) (io), 26 PC3(ADC3) (io), 27 PC4(ADC4/SDA) (io), 28 PC5(ADC5/SCL) (io)

## ATMEGA328P_PDIP_EZ
designator U?, comment Keyed ATMEGA328 DIP    This is a version of the DIP package with pin 28 clipped to prevent reverse insertion. See regular 328 for product references.
GateName_1: U1; SymbolName_1: ATMEGAXX8-28PIN_EZ; DeviceSetName: ATMEGA328P_PDIP_EZ; LibraryName: SparkFun-IC-Microcontroller; Package: DIP28-SIMON-KIT
footprint DIP28-SIMON-KIT
pins: 1 PC6(/RESET) (io), 2 PD0(RXD) (io), 3 PD1(TXD) (io), 4 PD2(INT0) (io), 5 PD3(INT1) (io), 6 PD4(XCK/T0) (io), 7 VCC (io), 8,22 GND (io), 9 PB6(XTAL1/TOSC1) (io), 10 PB7(XTAL2/TOSC2) (io), 11 PD5(T1) (io), 12 PD6(AIN0) (io), 13 PD7(AIN1) (io), 14 PB0(ICP) (io), 15 PB1(OC1A) (io), 16 PB2(SS/OC1B) (io), 17 PB3(MOSI/OC2) (io), 18 PB4(MISO) (io), 19 PB5(SCK) (io), 20 AVCC (io), 21 AREF (io), 23 PC0(ADC0) (io), 24 PC1(ADC1) (io), 25 PC2(ADC2) (io), 26 PC3(ADC3) (io), 27 PC4(ADC4/SDA) (io)

## ATMEGA328P_TQFP
designator U?, comment Popular 328P in QFP       Storefront component: ATmega328 - TQFP (COM-13448)   Datasheet SparkFun Products  SparkFun RedBoard - Programmed with Arduino (DEV-12757)  Arduino Pro Mini 328 - 5V/16MHz (DEV-11113)  Arduino Pro Mini 328 - 3.3V/8MHz (DEV-11114)  SparkFun OpenLog (DEV-13712)  SparkFun MicroView - OLED Arduino Module (DEV-12923)  SparkFun Digital Sandbox (DEV-12651)  SparkFun PicoBoard (WIG-11888)  Arduino Fio (DEV-10116)  LilyPad Arduino 328 Main Board (DEV-13342)  SparkFun RedStick (DEV-13741)  LilyPad MP3 (DEV-11013)  LilyPad Arduino SimpleSnap (DEV-10941)  SparkFun Stepoko (ROB-13899)  SparkFun Geiger Counter (SEN-11345)  SparkFun EL Sequencer (COM-12781)  Arduino Pro 328 - 5V/16MHz (DEV-10915)  CryptoCape (DEV-12773)  SparkFun IR Thermometer Evaluation Board - MLX90614 (SEN-10740)  SparkFun RedBot Mainboard (ROB-12097)  Arduino Pro 328 - 3.3V/8MHz (DEV-10914)  SparkFun Block for IntelÂ® Edison - Arduino (DEV-13036)  SparkFun Simon Says - Surface Mount Soldering Kit (KIT-10935)  SparkFun 7-Segment Serial Display - Red (COM-11441)  SparkFun 7-Segment Serial Display - White (COM-11629)  SparkFun 7-Segment Serial Display - Yellow (COM-11443)  SparkFun 7-Segment Serial Display - Kelly Green (COM-11440)  SparkFun 7-Segment Serial Display - Blue (COM-11442)  SparkFun OpenSegment Serial Display - 20mm (Blue) (COM-11647)  SparkFun OpenSegment Serial Display - 20mm (Green) (COM-11646)  SparkFun OpenSegment Serial Display - 20mm (White) (COM-11648)  SparkFun OpenSegment Serial Display - 20mm (Red) (COM-11644)  SparkFun OpenSegment Serial Display - 20mm (Yellow) (COM-11645)  SparkFun OpenSegment Shield (DEV-13190)
GateName_1: U1; SymbolName_1: ATMEGAXX8-32PIN_NOPAD; DeviceSetName: ATMEGA328P_TQFP; PROD_ID: IC-09069; LibraryName: SparkFun-IC-Microcontroller; Package: TQFP32-08
footprint TQFP32-08
pins: 1 PD3(INT1) (io), 2 PD4(XCK/T0) (io), 3,5 GND (io), 4,6 VCC (io), 7 PB6(XTAL1/TOSC1) (io), 8 PB7(XTAL2/TOSC2) (io), 9 PD5(T1) (io), 10 PD6(AIN0) (io), 11 PD7(AIN1) (io), 12 PB0(ICP) (io), 13 PB1(OC1A) (io), 14 PB2(SS/OC1B) (io), 15 PB3(COPI/OC2) (io), 16 PB4(CIPO) (io), 17 PB5(SCK) (io), 18 AVCC (io), 19 ADC6 (io), 20 AREF (io), 21 AGND (io), 22 ADC7 (io), 23 PC0(ADC0) (io), 24 PC1(ADC1) (io), 25 PC2(ADC2) (io), 26 PC3(ADC3) (io), 27 PC4(ADC4/SDA) (io), 28 PC5(ADC5/SCL) (io), 29 PC6(/RESET) (io), 30 PD0(RXD) (io), 31 PD1(TXD) (io), 32 PD2(INT0) (io)

## ATMEGA328P_VQFNVQFN
designator U?, comment Atmel 328P    QFN part not in catalog
GateName_1: U1; SymbolName_1: ATMEGAXX8-28PIN_PAD; DeviceName: VQFN; DeviceSetName: ATMEGA328P_VQFN; LibraryName: SparkFun-IC-Microcontroller; Package: VQFN-28
footprint VQFN-28
pins: 1 PD3(INT1) (io), 2 PD4(XCK/T0) (io), 3 VCC (io), 4,18 GND (io), 5 PB6(XTAL1/TOSC1) (io), 6 PB7(XTAL2/TOSC2) (io), 7 PD5(T1) (io), 8 PD6(AIN0) (io), 9 PD7(AIN1) (io), 10 PB0(ICP) (io), 11 PB1(OC1A) (io), 12 PB2(SS/OC1B) (io), 13 PB3(MOSI/OC2) (io), 14 PB4(MISO) (io), 15 PB5(SCK) (io), 16 AVCC (io), 17 AREF (io), 19 PC0(ADC0) (io), 20 PC1(ADC1) (io), 21 PC2(ADC2) (io), 22 PC3(ADC3) (io), 23 PC4(ADC4/SDA) (io), 24 PC5(ADC5/SCL) (io), 25 PC6(/RESET) (io), 26 PD0(RXD) (io), 27 PD1(TXD) (io), 28 PD2(INT0) (io), PAD GND@PAD (io)

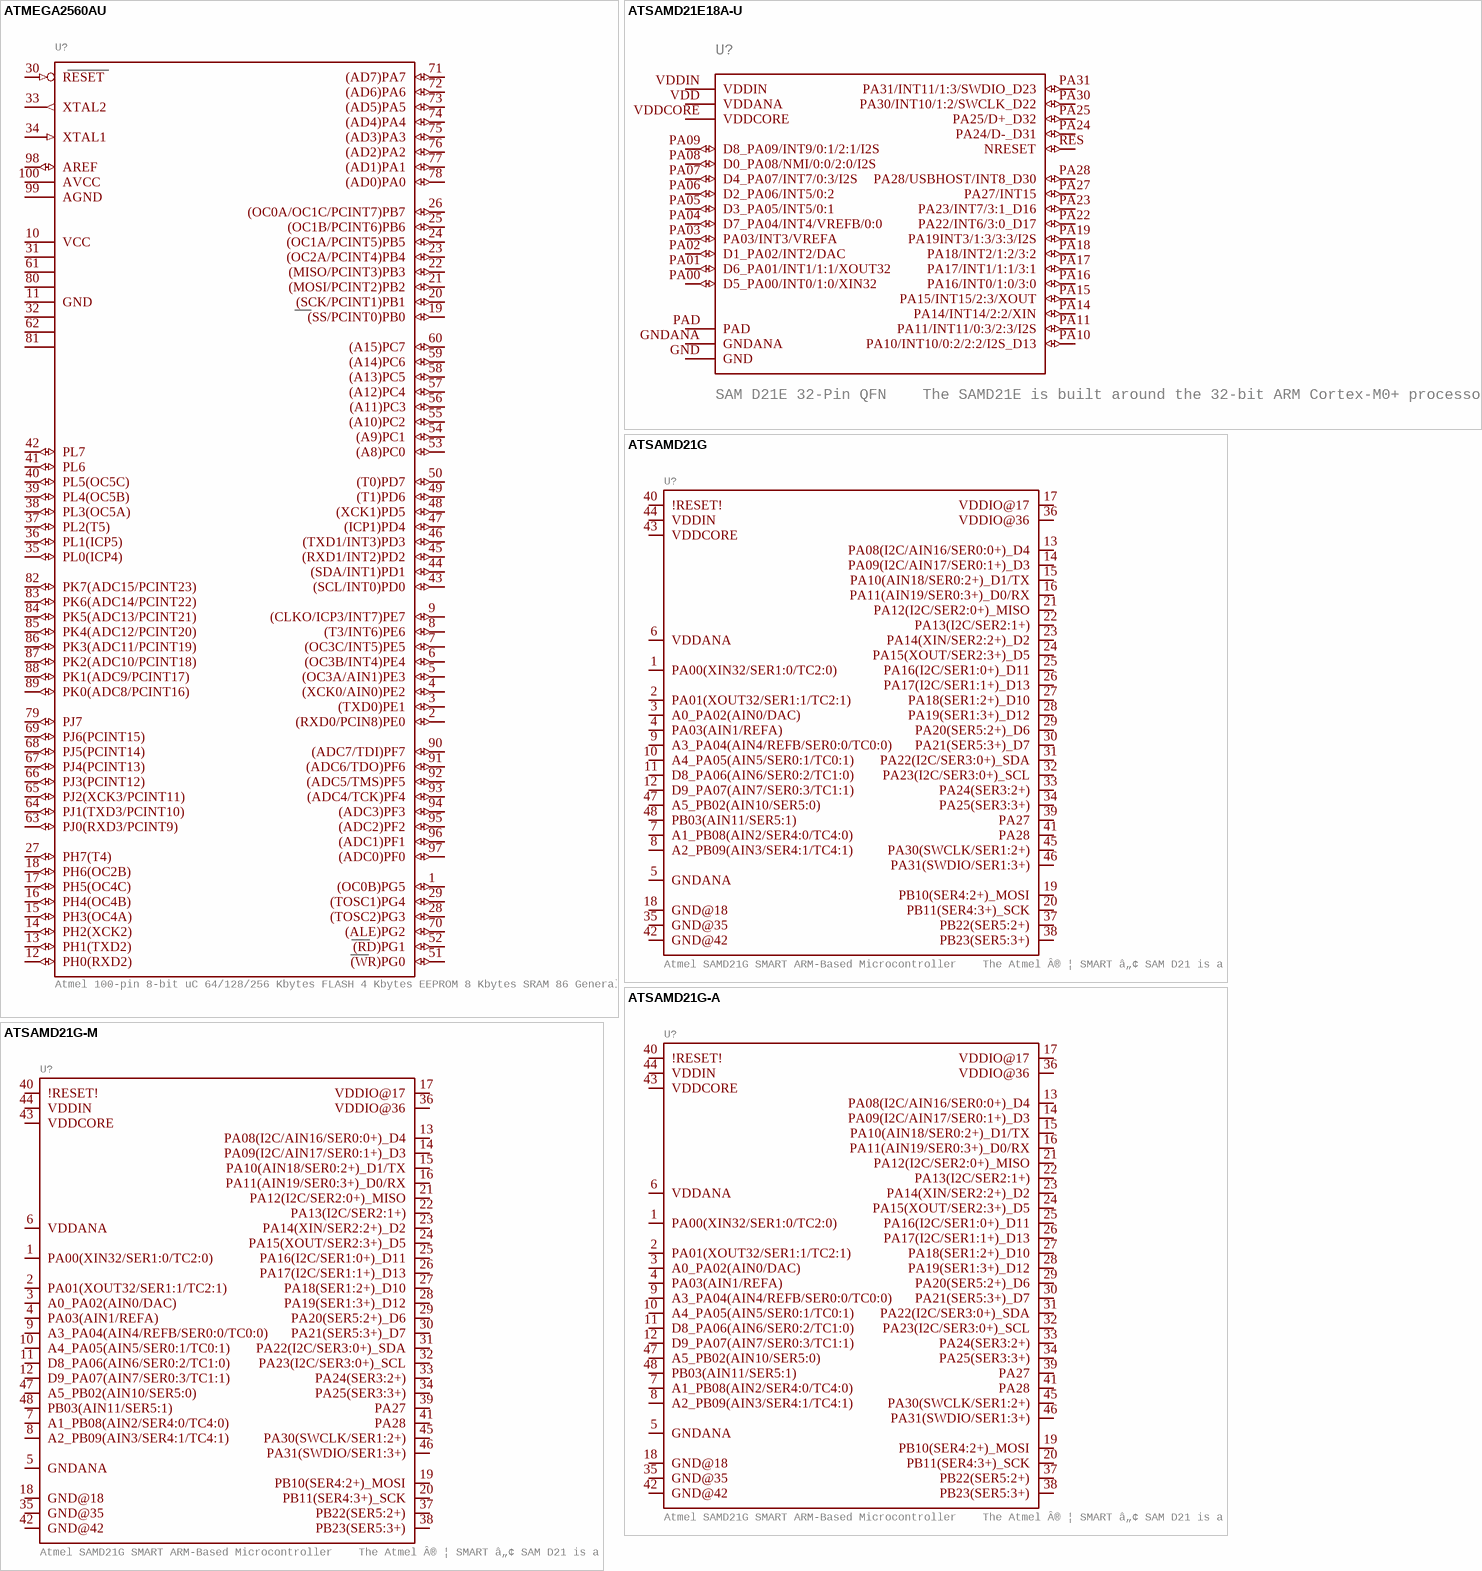
[diagram p4: symbols ATMEGA2560AU to ATSAMD21G-M]

## ATMEGA2560AU
designator U?, comment Atmel 100-pin 8-bit uC 64/128/256 Kbytes FLASH 4 Kbytes EEPROM 8 Kbytes SRAM 86 General Purpose I/O pins 12-channels16-bit PWM 4 x Serial USARTs 16-channels 10-bit A/D  SparkFun Products  None.
GateName_1: 1; SymbolName_1: ATMEGA2560; DeviceName: AU; PROD_ID: IC-10040; LibraryName: SparkFun-IC-Microcontroller; DeviceSetName: ATMEGA2560; Package: TQFP100
footprint TQFP100
pins: 1 (OC0B)PG5 (io), 2 (RXD0/PCIN8)PE0 (io), 3 (TXD0)PE1 (io), 4 (XCK0/AIN0)PE2 (io), 5 (OC3A/AIN1)PE3 (io), 6 (OC3B/INT4)PE4 (io), 7 (OC3C/INT5)PE5 (io), 8 (T3/INT6)PE6 (io), 9 (CLKO/ICP3/INT7)PE7 (io), 10 VCC (power), 11 GND (power), 12 PH0(RXD2) (io), 13 PH1(TXD2) (io), 14 PH2(XCK2) (io), 15 PH3(OC4A) (io), 16 PH4(OC4B) (io), 17 PH5(OC4C) (io), 18 PH6(OC2B) (io), 19 (SS/PCINT0)PB0 (io), 20 (SCK/PCINT1)PB1 (io), 21 (MOSI/PCINT2)PB2 (io), 22 (MISO/PCINT3)PB3 (io), 23 (OC2A/PCINT4)PB4 (io), 24 (OC1A/PCINT5)PB5 (io), 25 (OC1B/PCINT6)PB6 (io), 26 (OC0A/OC1C/PCINT7)PB7 (io), 27 PH7(T4) (io), 28 (TOSC2)PG3 (io), 29 (TOSC1)PG4 (io), 30 RESET (in), 31 VCC1 (power), 32 GND1 (power), 33 XTAL2 (out), 34 XTAL1 (in), 35 PL0(ICP4) (io), 36 PL1(ICP5) (io), 37 PL2(T5) (io), 38 PL3(OC5A) (io), 39 PL4(OC5B) (io), 40 PL5(OC5C) (io), 41 PL6 (io), 42 PL7 (io), 43 (SCL/INT0)PD0 (io), 44 (SDA/INT1)PD1 (io), 45 (RXD1/INT2)PD2 (io), 46 (TXD1/INT3)PD3 (io), 47 (ICP1)PD4 (io), 48 (XCK1)PD5 (io), 49 (T1)PD6 (io), 50 (T0)PD7 (io), 51 (WR)PG0 (io), 52 (RD)PG1 (io), 53 (A8)PC0 (io), 54 (A9)PC1 (io), 55 (A10)PC2 (io), 56 (A11)PC3 (io), 57 (A12)PC4 (io), 58 (A13)PC5 (io), 59 (A14)PC6 (io), 60 (A15)PC7 (io), 61 VCC2 (power), 62 GND2 (power), 63 PJ0(RXD3/PCINT9) (io), 64 PJ1(TXD3/PCINT10) (io), 65 PJ2(XCK3/PCINT11) (io), 66 PJ3(PCINT12) (io), 67 PJ4(PCINT13) (io), 68 PJ5(PCINT14) (io), 69 PJ6(PCINT15) (io), 70 (ALE)PG2 (io), 71 (AD7)PA7 (io), 72 (AD6)PA6 (io), 73 (AD5)PA5 (io), 74 (AD4)PA4 (io), 75 (AD3)PA3 (io), 76 (AD2)PA2 (io), 77 (AD1)PA1 (io), 78 (AD0)PA0 (io), 79 PJ7 (io), 80 VCC3 (power), 81 GND3 (power), 82 PK7(ADC15/PCINT23) (io), 83 PK6(ADC14/PCINT22) (io), 84 PK5(ADC13/PCINT21) (io), 85 PK4(ADC12/PCINT20) (io), 86 PK3(ADC11/PCINT19) (io), 87 PK2(ADC10/PCINT18) (io), 88 PK1(ADC9/PCINT17) (io), 89 PK0(ADC8/PCINT16) (io), 90 (ADC7/TDI)PF7 (io), 91 (ADC6/TDO)PF6 (io), 92 (ADC5/TMS)PF5 (io), 93 (ADC4/TCK)PF4 (io), 94 (ADC3)PF3 (io), 95 (ADC2)PF2 (io), 96 (ADC1)PF1 (io), 97 (ADC0)PF0 (io), 98 AREF (io), 99 AGND (power), 100 AVCC (power)

## ATSAMD21E18A-U
designator U?, comment SAM D21E 32-Pin QFN    The SAMD21E is built around the 32-bit ARM Cortex-M0+ processor with up to 256KB of Flash and 32KB of SRAM. It operates at a maximum frequency of 48MHz.
GateName_1: G$1; SymbolName_1: SAMD21E18A-U; DeviceSetName: ATSAMD21E18A-U; PROD_ID: IC-14428; LibraryName: SparkFun-IC-Microcontroller; Package: QFN-32_SAMD
footprint QFN-32_SAMD
pins: GND (power), GNDANA (power), PA00 D5_PA00/INT0/1:0/XIN32 (io), PA01 D6_PA01/INT1/1:1/XOUT32 (io), PA02 D1_PA02/INT2/DAC (io), PA03 PA03/INT3/VREFA (io), PA04 D7_PA04/INT4/VREFB/0:0 (io), PA05 D3_PA05/INT5/0:1 (io), PA06 D2_PA06/INT5/0:2 (io), PA07 D4_PA07/INT7/0:3/I2S (io), PA08 D0_PA08/NMI/0:0/2:0/I2S (io), PA09 D8_PA09/INT9/0:1/2:1/I2S (io), PA10 PA10/INT10/0:2/2:2/I2S_D13 (io), PA11 PA11/INT11/0:3/2:3/I2S (io), PA14 PA14/INT14/2:2/XIN (io), PA15 PA15/INT15/2:3/XOUT (io), PA16 PA16/INT0/1:0/3:0 (io), PA17 PA17/INT1/1:1/3:1 (io), PA18 PA18/INT2/1:2/3:2 (io), PA19 PA19INT3/1:3/3:3/I2S (io), PA22 PA22/INT6/3:0_D17 (io), PA23 PA23/INT7/3:1_D16 (io), PA24 PA24/D-_D31 (io), PA25 PA25/D+_D32 (io), PA27 PA27/INT15 (io), PA28 PA28/USBHOST/INT8_D30 (io), PA30 PA30/INT10/1:2/SWCLK_D22 (io), PA31 PA31/INT11/1:3/SWDIO_D23 (io), PAD (power), RES NRESET (io), VDD VDDANA (power), VDDCORE (power), VDDIN (power)

## ATSAMD21G
designator U?, comment Atmel SAMD21G SMART ARM-Based Microcontroller    The Atmel Â® ¦ SMART â„¢ SAM D21 is a series of low-power microcontrollers using the 32-bit ARM Â® Cortex Â® -M0+ processor, and ranging from 32- to 64-pins with up to 256KB Flash and 32KB of SRAM. The SAM D21 devices operate at a maximum frequency of 48MHz and reach 2.46 CoreMark/MHz. They are designed for simple and intuitive migration with identical peripheral modules, hex compatible code, identical linear address map and pin compatible migration paths between all devices in the product series. All devices include intelligent and flexible peripherals, Atmel Event System for inter-peripheral signaling, and support for capacitive touch button, slider and wheel user interfaces.   Datasheet SparkFun Products  SparkFun SAMD21 Mini Breakout (DEV-13664)  SparkFun SAMD21 Dev Breakout (DEV-13672)  (DEV-14926)
GateName_1: G$1; SymbolName_1: ATSAMD21G; PROD_ID: IC-14066; LibraryName: SparkFun-IC-Microcontroller; DeviceSetName: ATSAMD21G; Package: QFN-48_NO_EXPOSED_PAD
footprint QFN-48_NO_EXPOSED_PAD
pins: 1 PA00(XIN32/SER1:0/TC2:0) (io), 2 PA01(XOUT32/SER1:1/TC2:1) (io), 3 A0_PA02(AIN0/DAC) (io), 4 PA03(AIN1/REFA) (io), 5 GNDANA (io), 6 VDDANA (io), 7 A1_PB08(AIN2/SER4:0/TC4:0) (io), 8 A2_PB09(AIN3/SER4:1/TC4:1) (io), 9 A3_PA04(AIN4/REFB/SER0:0/TC0:0) (io), 10 A4_PA05(AIN5/SER0:1/TC0:1) (io), 11 D8_PA06(AIN6/SER0:2/TC1:0) (io), 12 D9_PA07(AIN7/SER0:3/TC1:1) (io), 13 PA08(I2C/AIN16/SER0:0+)_D4 (io), 14 PA09(I2C/AIN17/SER0:1+)_D3 (io), 15 PA10(AIN18/SER0:2+)_D1/TX (io), 16 PA11(AIN19/SER0:3+)_D0/RX (io), 17 VDDIO@17 (io), 18 GND@18 (io), 19 PB10(SER4:2+)_MOSI (io), 20 PB11(SER4:3+)_SCK (io), 21 PA12(I2C/SER2:0+)_MISO (io), 22 PA13(I2C/SER2:1+) (io), 23 PA14(XIN/SER2:2+)_D2 (io), 24 PA15(XOUT/SER2:3+)_D5 (io), 25 PA16(I2C/SER1:0+)_D11 (io), 26 PA17(I2C/SER1:1+)_D13 (io), 27 PA18(SER1:2+)_D10 (io), 28 PA19(SER1:3+)_D12 (io), 29 PA20(SER5:2+)_D6 (io), 30 PA21(SER5:3+)_D7 (io), 31 PA22(I2C/SER3:0+)_SDA (io), 32 PA23(I2C/SER3:0+)_SCL (io), 33 PA24(SER3:2+) (io), 34 PA25(SER3:3+) (io), 35 GND@35 (io), 36 VDDIO@36 (io), 37 PB22(SER5:2+) (io), 38 PB23(SER5:3+) (io), 39 PA27 (io), 40 !RESET! (io), 41 PA28 (io), 42 GND@42 (io), 43 VDDCORE (io), 44 VDDIN (io), 45 PA30(SWCLK/SER1:2+) (io), 46 PA31(SWDIO/SER1:3+) (io), 47 A5_PB02(AIN10/SER5:0) (io), 48 PB03(AIN11/SER5:1) (io)

## ATSAMD21G-A
designator U?, comment Atmel SAMD21G SMART ARM-Based Microcontroller    The Atmel Â® ¦ SMART â„¢ SAM D21 is a series of low-power microcontrollers using the 32-bit ARM Â® Cortex Â® -M0+ processor, and ranging from 32- to 64-pins with up to 256KB Flash and 32KB of SRAM. The SAM D21 devices operate at a maximum frequency of 48MHz and reach 2.46 CoreMark/MHz. They are designed for simple and intuitive migration with identical peripheral modules, hex compatible code, identical linear address map and pin compatible migration paths between all devices in the product series. All devices include intelligent and flexible peripherals, Atmel Event System for inter-peripheral signaling, and support for capacitive touch button, slider and wheel user interfaces.   Datasheet SparkFun Products  SparkFun SAMD21 Mini Breakout (DEV-13664)  SparkFun SAMD21 Dev Breakout (DEV-13672)  (DEV-14926)
GateName_1: G$1; SymbolName_1: ATSAMD21G; DeviceName: -A; PROD_ID: IC-13064; LibraryName: SparkFun-IC-Microcontroller; DeviceSetName: ATSAMD21G; Package: TQFP-48
footprint TQFP-48
pins: 1 PA00(XIN32/SER1:0/TC2:0) (io), 2 PA01(XOUT32/SER1:1/TC2:1) (io), 3 A0_PA02(AIN0/DAC) (io), 4 PA03(AIN1/REFA) (io), 5 GNDANA (io), 6 VDDANA (io), 7 A1_PB08(AIN2/SER4:0/TC4:0) (io), 8 A2_PB09(AIN3/SER4:1/TC4:1) (io), 9 A3_PA04(AIN4/REFB/SER0:0/TC0:0) (io), 10 A4_PA05(AIN5/SER0:1/TC0:1) (io), 11 D8_PA06(AIN6/SER0:2/TC1:0) (io), 12 D9_PA07(AIN7/SER0:3/TC1:1) (io), 13 PA08(I2C/AIN16/SER0:0+)_D4 (io), 14 PA09(I2C/AIN17/SER0:1+)_D3 (io), 15 PA10(AIN18/SER0:2+)_D1/TX (io), 16 PA11(AIN19/SER0:3+)_D0/RX (io), 17 VDDIO@17 (io), 18 GND@18 (io), 19 PB10(SER4:2+)_MOSI (io), 20 PB11(SER4:3+)_SCK (io), 21 PA12(I2C/SER2:0+)_MISO (io), 22 PA13(I2C/SER2:1+) (io), 23 PA14(XIN/SER2:2+)_D2 (io), 24 PA15(XOUT/SER2:3+)_D5 (io), 25 PA16(I2C/SER1:0+)_D11 (io), 26 PA17(I2C/SER1:1+)_D13 (io), 27 PA18(SER1:2+)_D10 (io), 28 PA19(SER1:3+)_D12 (io), 29 PA20(SER5:2+)_D6 (io), 30 PA21(SER5:3+)_D7 (io), 31 PA22(I2C/SER3:0+)_SDA (io), 32 PA23(I2C/SER3:0+)_SCL (io), 33 PA24(SER3:2+) (io), 34 PA25(SER3:3+) (io), 35 GND@35 (io), 36 VDDIO@36 (io), 37 PB22(SER5:2+) (io), 38 PB23(SER5:3+) (io), 39 PA27 (io), 40 !RESET! (io), 41 PA28 (io), 42 GND@42 (io), 43 VDDCORE (io), 44 VDDIN (io), 45 PA30(SWCLK/SER1:2+) (io), 46 PA31(SWDIO/SER1:3+) (io), 47 A5_PB02(AIN10/SER5:0) (io), 48 PB03(AIN11/SER5:1) (io)

## ATSAMD21G-M
designator U?, comment Atmel SAMD21G SMART ARM-Based Microcontroller    The Atmel Â® ¦ SMART â„¢ SAM D21 is a series of low-power microcontrollers using the 32-bit ARM Â® Cortex Â® -M0+ processor, and ranging from 32- to 64-pins with up to 256KB Flash and 32KB of SRAM. The SAM D21 devices operate at a maximum frequency of 48MHz and reach 2.46 CoreMark/MHz. They are designed for simple and intuitive migration with identical peripheral modules, hex compatible code, identical linear address map and pin compatible migration paths between all devices in the product series. All devices include intelligent and flexible peripherals, Atmel Event System for inter-peripheral signaling, and support for capacitive touch button, slider and wheel user interfaces.   Datasheet SparkFun Products  SparkFun SAMD21 Mini Breakout (DEV-13664)  SparkFun SAMD21 Dev Breakout (DEV-13672)  (DEV-14926)
GateName_1: G$1; SymbolName_1: ATSAMD21G; DeviceName: -M; PROD_ID: IC-13064; LibraryName: SparkFun-IC-Microcontroller; DeviceSetName: ATSAMD21G; Package: QFN-48
footprint QFN-48
pins: 1 PA00(XIN32/SER1:0/TC2:0) (io), 2 PA01(XOUT32/SER1:1/TC2:1) (io), 3 A0_PA02(AIN0/DAC) (io), 4 PA03(AIN1/REFA) (io), 5 GNDANA (io), 6 VDDANA (io), 7 A1_PB08(AIN2/SER4:0/TC4:0) (io), 8 A2_PB09(AIN3/SER4:1/TC4:1) (io), 9 A3_PA04(AIN4/REFB/SER0:0/TC0:0) (io), 10 A4_PA05(AIN5/SER0:1/TC0:1) (io), 11 D8_PA06(AIN6/SER0:2/TC1:0) (io), 12 D9_PA07(AIN7/SER0:3/TC1:1) (io), 13 PA08(I2C/AIN16/SER0:0+)_D4 (io), 14 PA09(I2C/AIN17/SER0:1+)_D3 (io), 15 PA10(AIN18/SER0:2+)_D1/TX (io), 16 PA11(AIN19/SER0:3+)_D0/RX (io), 17 VDDIO@17 (io), 18 GND@18 (io), 19 PB10(SER4:2+)_MOSI (io), 20 PB11(SER4:3+)_SCK (io), 21 PA12(I2C/SER2:0+)_MISO (io), 22 PA13(I2C/SER2:1+) (io), 23 PA14(XIN/SER2:2+)_D2 (io), 24 PA15(XOUT/SER2:3+)_D5 (io), 25 PA16(I2C/SER1:0+)_D11 (io), 26 PA17(I2C/SER1:1+)_D13 (io), 27 PA18(SER1:2+)_D10 (io), 28 PA19(SER1:3+)_D12 (io), 29 PA20(SER5:2+)_D6 (io), 30 PA21(SER5:3+)_D7 (io), 31 PA22(I2C/SER3:0+)_SDA (io), 32 PA23(I2C/SER3:0+)_SCL (io), 33 PA24(SER3:2+) (io), 34 PA25(SER3:3+) (io), 35 GND@35 (io), 36 VDDIO@36 (io), 37 PB22(SER5:2+) (io), 38 PB23(SER5:3+) (io), 39 PA27 (io), 40 !RESET! (io), 41 PA28 (io), 42 GND@42 (io), 43 VDDCORE (io), 44 VDDIN (io), 45 PA30(SWCLK/SER1:2+) (io), 46 PA31(SWDIO/SER1:3+) (io), 47 A5_PB02(AIN10/SER5:0) (io), 48 PB03(AIN11/SER5:1) (io)

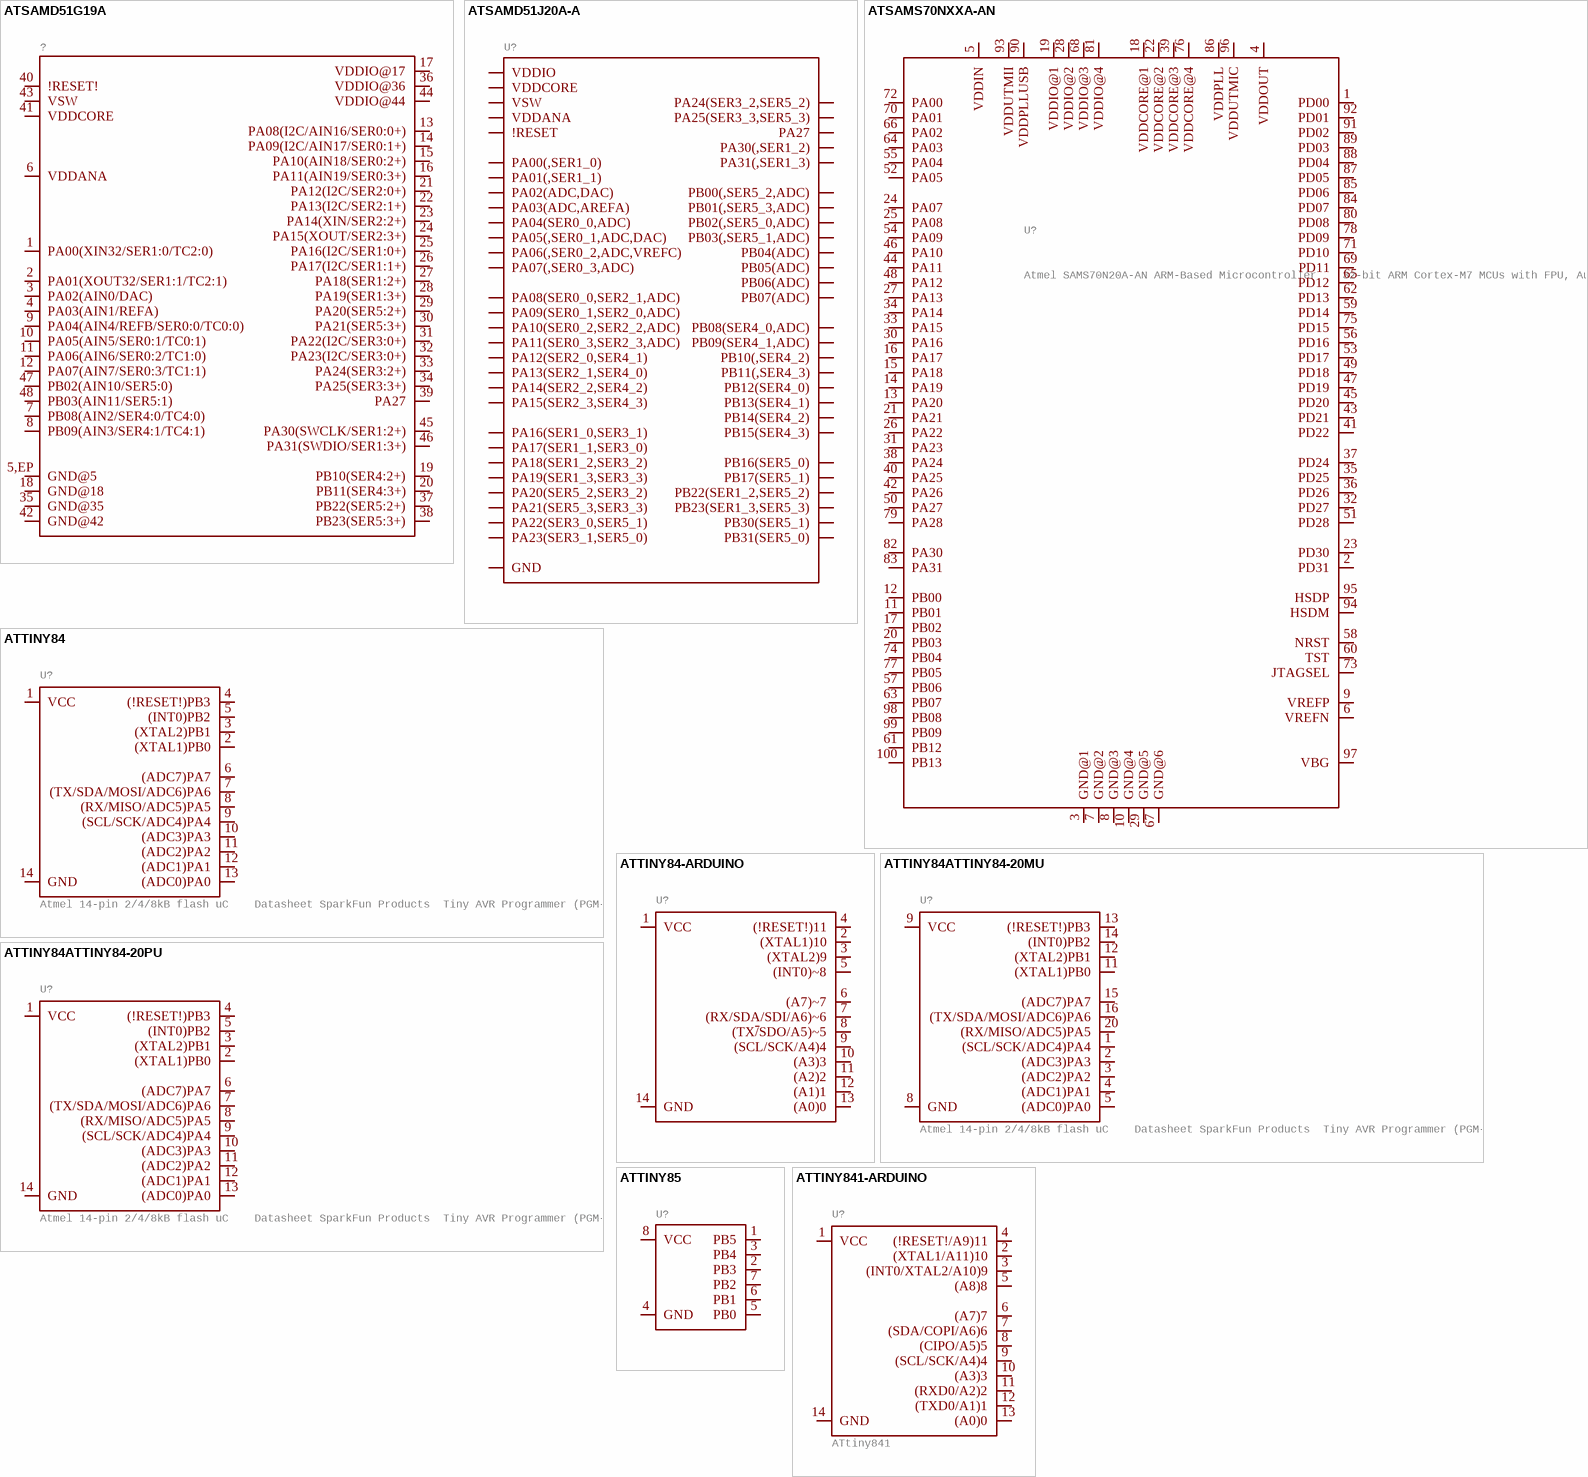
[diagram p5: symbols ATSAMD51G19A to ATTINY841-ARDUINO]

## ATSAMD51G19A
designator ?
GateName_1: G$1; SymbolName_1: ATSAMD51G; DeviceSetName: ATSAMD51G19A; LibraryName: SparkFun-IC-Microcontroller; Package: QFN-48
footprint QFN-48
pins: 1 PA00(XIN32/SER1:0/TC2:0) (io), 2 PA01(XOUT32/SER1:1/TC2:1) (io), 3 PA02(AIN0/DAC) (io), 4 PA03(AIN1/REFA) (io), 5,EP GND@5 (io), 6 VDDANA (io), 7 PB08(AIN2/SER4:0/TC4:0) (io), 8 PB09(AIN3/SER4:1/TC4:1) (io), 9 PA04(AIN4/REFB/SER0:0/TC0:0) (io), 10 PA05(AIN5/SER0:1/TC0:1) (io), 11 PA06(AIN6/SER0:2/TC1:0) (io), 12 PA07(AIN7/SER0:3/TC1:1) (io), 13 PA08(I2C/AIN16/SER0:0+) (io), 14 PA09(I2C/AIN17/SER0:1+) (io), 15 PA10(AIN18/SER0:2+) (io), 16 PA11(AIN19/SER0:3+) (io), 17 VDDIO@17 (io), 18 GND@18 (io), 19 PB10(SER4:2+) (io), 20 PB11(SER4:3+) (io), 21 PA12(I2C/SER2:0+) (io), 22 PA13(I2C/SER2:1+) (io), 23 PA14(XIN/SER2:2+) (io), 24 PA15(XOUT/SER2:3+) (io), 25 PA16(I2C/SER1:0+) (io), 26 PA17(I2C/SER1:1+) (io), 27 PA18(SER1:2+) (io), 28 PA19(SER1:3+) (io), 29 PA20(SER5:2+) (io), 30 PA21(SER5:3+) (io), 31 PA22(I2C/SER3:0+) (io), 32 PA23(I2C/SER3:0+) (io), 33 PA24(SER3:2+) (io), 34 PA25(SER3:3+) (io), 35 GND@35 (io), 36 VDDIO@36 (io), 37 PB22(SER5:2+) (io), 38 PB23(SER5:3+) (io), 39 PA27 (io), 40 !RESET! (io), 41 VDDCORE (io), 42 GND@42 (io), 43 VSW (io), 44 VDDIO@44 (io), 45 PA30(SWCLK/SER1:2+) (io), 46 PA31(SWDIO/SER1:3+) (io), 47 PB02(AIN10/SER5:0) (io), 48 PB03(AIN11/SER5:1) (io)

## ATSAMD51J20A-A
designator U?
GateName_1: G$1; SymbolName_1: ATSAMD51J20; DeviceSetName: ATSAMD51J20A-A; PROD_ID: IC-13952; LibraryName: SparkFun-IC-Microcontroller; Package: TQFP64
footprint TQFP64
pins: 1 PA00(,SER1_0) (io), 2 PA01(,SER1_1) (io), 3 PA02(ADC,DAC) (io), 4 PA03(ADC,AREFA) (io), 5 PB04(ADC) (io), 6 PB05(ADC) (io), 7,22,33,47,54 GND (io), 8 VDDANA (io), 9 PB06(ADC) (io), 10 PB07(ADC) (io), 11 PB08(SER4_0,ADC) (io), 12 PB09(SER4_1,ADC) (io), 13 PA04(SER0_0,ADC) (io), 14 PA05(,SER0_1,ADC,DAC) (io), 15 PA06(,SER0_2,ADC,VREFC) (io), 16 PA07(,SER0_3,ADC) (io), 17 PA08(SER0_0,SER2_1,ADC) (io), 18 PA09(SER0_1,SER2_0,ADC) (io), 19 PA10(SER0_2,SER2_2,ADC) (io), 20 PA11(SER0_3,SER2_3,ADC) (io), 21,34,48,56 VDDIO (io), 23 PB10(,SER4_2) (io), 24 PB11(,SER4_3) (io), 25 PB12(SER4_0) (io), 26 PB13(SER4_1) (io), 27 PB14(SER4_2) (io), 28 PB15(SER4_3) (io), 29 PA12(SER2_0,SER4_1) (io), 30 PA13(SER2_1,SER4_0) (io), 31 PA14(SER2_2,SER4_2) (io), 32 PA15(SER2_3,SER4_3) (io), 35 PA16(SER1_0,SER3_1) (io), 36 PA17(SER1_1,SER3_0) (io), 37 PA18(SER1_2,SER3_2) (io), 38 PA19(SER1_3,SER3_3) (io), 39 PB16(SER5_0) (io), 40 PB17(SER5_1) (io), 41 PA20(SER5_2,SER3_2) (io), 42 PA21(SER5_3,SER3_3) (io), 43 PA22(SER3_0,SER5_1) (io), 44 PA23(SER3_1,SER5_0) (io), 45 PA24(SER3_2,SER5_2) (io), 46 PA25(SER3_3,SER5_3) (io), 49 PB22(SER1_2,SER5_2) (io), 50 PB23(SER1_3,SER5_3) (io), 51 PA27 (io), 52 !RESET (io), 53 VDDCORE (io), 55 VSW (io), 57 PA30(,SER1_2) (io), 58 PA31(,SER1_3) (io), 59 PB30(SER5_1) (io), 60 PB31(SER5_0) (io), 61 PB00(,SER5_2,ADC) (io), 62 PB01(,SER5_3,ADC) (io), 63 PB02(,SER5_0,ADC) (io), 64 PB03(,SER5_1,ADC) (io)

## ATSAMS70NXXA-AN
designator U?, comment Atmel SAMS70N20A-AN ARM-Based Microcontroller    32-bit ARM Cortex-M7 MCUs with FPU, Audio and Graphics Interfaces, High-Speed USB, Ethernet, and Advanced Analog    Datasheet SparkFun Products  SparkFun Tsunami Super WAV Trigger (WIG-13810)
GateName_1: G$1; SymbolName_1: SAMS70_100; DeviceSetName: ATSAMS70NXXA-AN; PROD_ID: IC-13238; LibraryName: SparkFun-IC-Microcontroller; Package: LQFP100
footprint LQFP100
pins: 1 PD00 (io), 2 PD31 (io), 3 GND@1 (io), 4 VDDOUT (io), 5 VDDIN (io), 6 VREFN (io), 7 GND@2 (io), 8 GND@3 (io), 9 VREFP (io), 10 GND@4 (io), 11 PB01 (io), 12 PB00 (io), 13 PA20 (io), 14 PA19 (io), 15 PA18 (io), 16 PA17 (io), 17 PB02 (io), 18 VDDCORE@1 (io), 19 VDDIO@1 (io), 20 PB03 (io), 21 PA21 (io), 22 VDDCORE@2 (io), 23 PD30 (io), 24 PA07 (io), 25 PA08 (io), 26 PA22 (io), 27 PA13 (io), 28 VDDIO@2 (io), 29 GND@5 (io), 30 PA16 (io), 31 PA23 (io), 32 PD27 (io), 33 PA15 (io), 34 PA14 (io), 35 PD25 (io), 36 PD26 (io), 37 PD24 (io), 38 PA24 (io), 39 VDDCORE@3 (io), 40 PA25 (io), 41 PD22 (io), 42 PA26 (io), 43 PD21 (io), 44 PA11 (io), 45 PD20 (io), 46 PA10 (io), 47 PD19 (io), 48 PA12 (io), 49 PD18 (io), 50 PA27 (io), 51 PD28 (io), 52 PA05 (io), 53 PD17 (io), 54 PA09 (io), 55 PA04 (io), 56 PD16 (io), 57 PB06 (io), 58 NRST (io), 59 PD14 (io), 60 TST (io), 61 PB12 (io), 62 PD13 (io), 63 PB07 (io), 64 PA03 (io), 65 PD12 (io), 66 PA02 (io), 67 GND@6 (io), 68 VDDIO@3 (io), 69 PD11 (io), 70 PA01 (io), 71 PD10 (io), 72 PA00 (io), 73 JTAGSEL (io), 74 PB04 (io), 75 PD15 (io), 76 VDDCORE@4 (io), 77 PB05 (io), 78 PD09 (io), 79 PA28 (io), 80 PD08 (io), 81 VDDIO@4 (io), 82 PA30 (io), 83 PA31 (io), 84 PD07 (io), 85 PD06 (io), 86 VDDPLL (io), 87 PD05 (io), 88 PD04 (io), 89 PD03 (io), 90 VDDPLLUSB (io), 91 PD02 (io), 92 PD01 (io), 93 VDDUTMII (io), 94 HSDM (io), 95 HSDP (io), 96 VDDUTMIC (io), 97 VBG (io), 98 PB08 (io), 99 PB09 (io), 100 PB13 (io)

## ATTINY84
designator U?, comment Atmel 14-pin 2/4/8kB flash uC    Datasheet SparkFun Products  Tiny AVR Programmer (PGM-11801)  SparkFun Servo Trigger - Continuous Rotation (WIG-13872)  SparkFun Servo Trigger (WIG-13118)
GateName_1: U1; SymbolName_1: ATTINY84; PROD_ID: IC-11285; LibraryName: SparkFun-IC-Microcontroller; DeviceSetName: ATTINY84; Package: SO14
footprint SO14
pins: 1 VCC (io), 2 (XTAL1)PB0 (io), 3 (XTAL2)PB1 (io), 4 (!RESET!)PB3 (io), 5 (INT0)PB2 (io), 6 (ADC7)PA7 (io), 7 (TX/SDA/MOSI/ADC6)PA6 (io), 8 (RX/MISO/ADC5)PA5 (io), 9 (SCL/SCK/ADC4)PA4 (io), 10 (ADC3)PA3 (io), 11 (ADC2)PA2 (io), 12 (ADC1)PA1 (io), 13 (ADC0)PA0 (io), 14 GND (io)

## ATTINY84-ARDUINO
designator U?
GateName_1: U1; SymbolName_1: ATTINY84-ARDUINO; PROD_ID: IC-14155; LibraryName: SparkFun-IC-Microcontroller; DeviceSetName: ATTINY84-ARDUINO; Package: SO14
footprint SO14
pins: 1 VCC (io), 2 (XTAL1)10 (io), 3 (XTAL2)9 (io), 4 (!RESET!)11 (io), 5 (INT0)~8 (io), 6 (A7)~7 (io), 7 (RX/SDA/SDI/A6)~6 (io), 8 (TX~{/}SDO/A5)~5 (io), 9 (SCL/SCK/A4)4 (io), 10 (A3)3 (io), 11 (A2)2 (io), 12 (A1)1 (io), 13 (A0)0 (io), 14 GND (io)

## ATTINY84ATTINY84-20MU
designator U?, comment Atmel 14-pin 2/4/8kB flash uC    Datasheet SparkFun Products  Tiny AVR Programmer (PGM-11801)  SparkFun Servo Trigger - Continuous Rotation (WIG-13872)  SparkFun Servo Trigger (WIG-13118)
GateName_1: U1; SymbolName_1: ATTINY84; DeviceName: ATTINY84-20MU; LibraryName: SparkFun-IC-Microcontroller; DeviceSetName: ATTINY84; Package: QFN20
footprint QFN20
pins: 1 (SCL/SCK/ADC4)PA4 (io), 2 (ADC3)PA3 (io), 3 (ADC2)PA2 (io), 4 (ADC1)PA1 (io), 5 (ADC0)PA0 (io), 8 GND (io), 9 VCC (io), 11 (XTAL1)PB0 (io), 12 (XTAL2)PB1 (io), 13 (!RESET!)PB3 (io), 14 (INT0)PB2 (io), 15 (ADC7)PA7 (io), 16 (TX/SDA/MOSI/ADC6)PA6 (io), 20 (RX/MISO/ADC5)PA5 (io)

## ATTINY84ATTINY84-20PU
designator U?, comment Atmel 14-pin 2/4/8kB flash uC    Datasheet SparkFun Products  Tiny AVR Programmer (PGM-11801)  SparkFun Servo Trigger - Continuous Rotation (WIG-13872)  SparkFun Servo Trigger (WIG-13118)
GateName_1: U1; SymbolName_1: ATTINY84; DeviceName: ATTINY84-20PU; LibraryName: SparkFun-IC-Microcontroller; DeviceSetName: ATTINY84; Package: DIP14
footprint DIP14
pins: 1 VCC (io), 2 (XTAL1)PB0 (io), 3 (XTAL2)PB1 (io), 4 (!RESET!)PB3 (io), 5 (INT0)PB2 (io), 6 (ADC7)PA7 (io), 7 (TX/SDA/MOSI/ADC6)PA6 (io), 8 (RX/MISO/ADC5)PA5 (io), 9 (SCL/SCK/ADC4)PA4 (io), 10 (ADC3)PA3 (io), 11 (ADC2)PA2 (io), 12 (ADC1)PA1 (io), 13 (ADC0)PA0 (io), 14 GND (io)

## ATTINY85
designator U?
GateName_1: U1; SymbolName_1: ATTINY85_ATTINY85; DeviceSetName: ATTINY85; PROD_ID: IC-09092; LibraryName: SparkFun-IC-Microcontroller; Package: ATTINY85
footprint ATTINY85
pins: 1 PB5 (io), 2 PB3 (io), 3 PB4 (io), 4 GND (io), 5 PB0 (io), 6 PB1 (io), 7 PB2 (io), 8 VCC (io)

## ATTINY841-ARDUINO
designator U?, comment ATtiny841
GateName_1: U1; SymbolName_1: ATTINY841-ARDUINO; PROD_ID: IC-14692; LibraryName: SparkFun-IC-Microcontroller; DeviceSetName: ATTINY841-ARDUINO; Package: SO14
footprint SO14
pins: 1 VCC (power), 2 (XTAL1/A11)10 (io), 3 (INT0/XTAL2/A10)9 (io), 4 (!RESET!/A9)11 (io), 5 (A8)8 (io), 6 (A7)7 (io), 7 (SDA/COPI/A6)6 (io), 8 (CIPO/A5)5 (io), 9 (SCL/SCK/A4)4 (io), 10 (A3)3 (io), 11 (RXD0/A2)2 (io), 12 (TXD0/A1)1 (io), 13 (A0)0 (io), 14 GND (power)

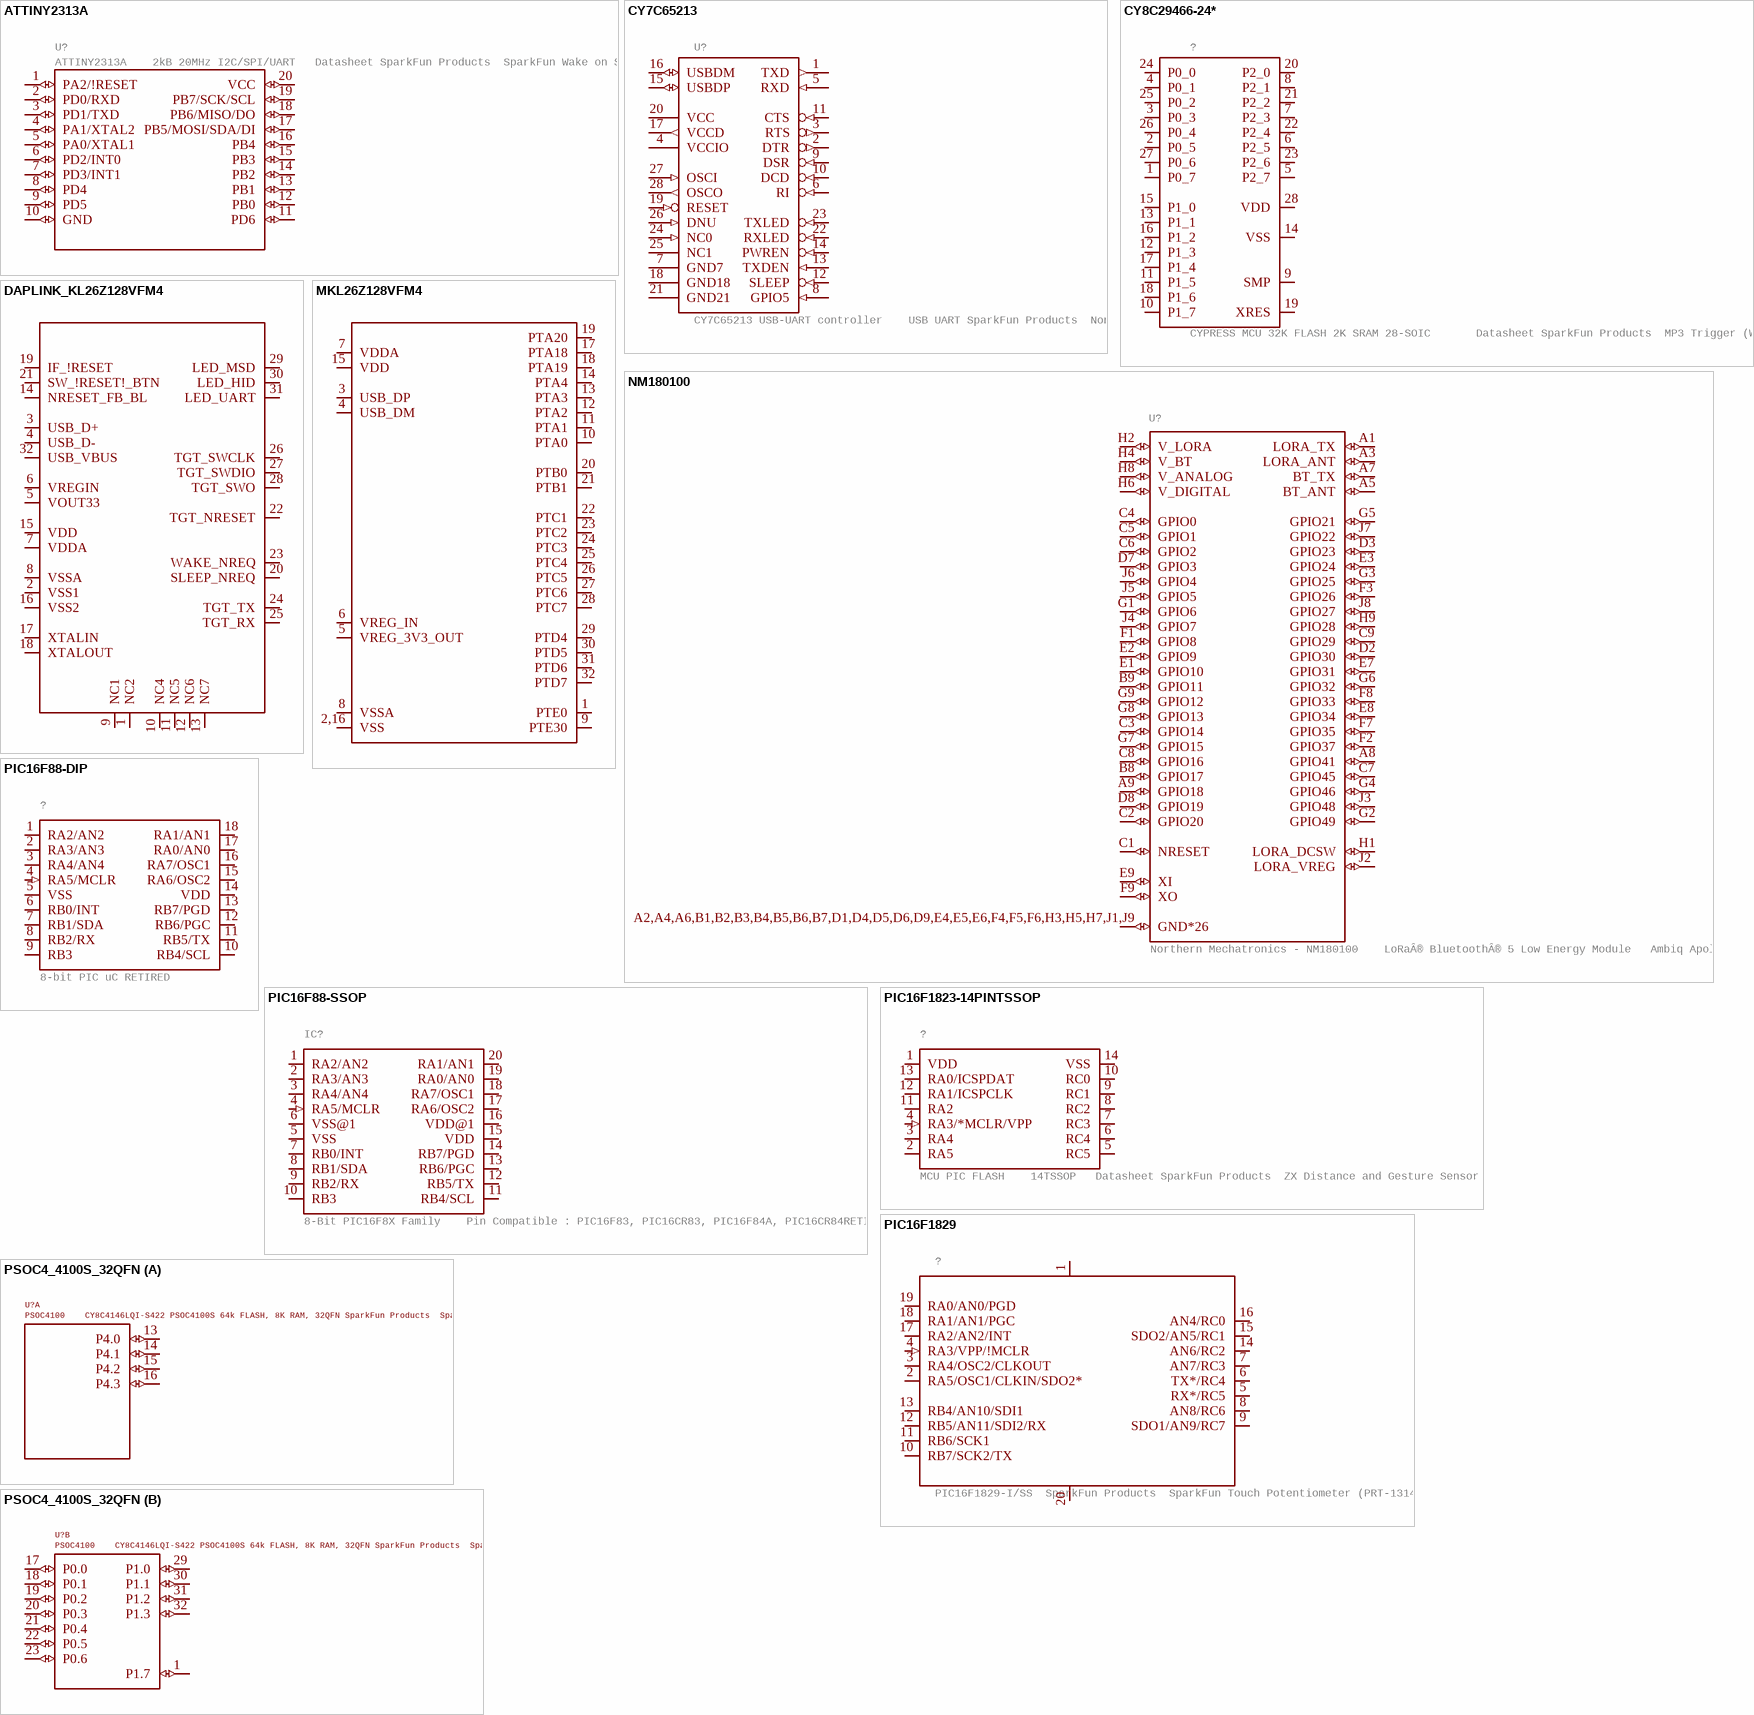
[diagram p6: symbols ATTINY2313A to PSOC4_4100S_32QFN]